# Altium integrated library Lattice FPGA XP.IntLib: 280 symbols (part 11 of 55)
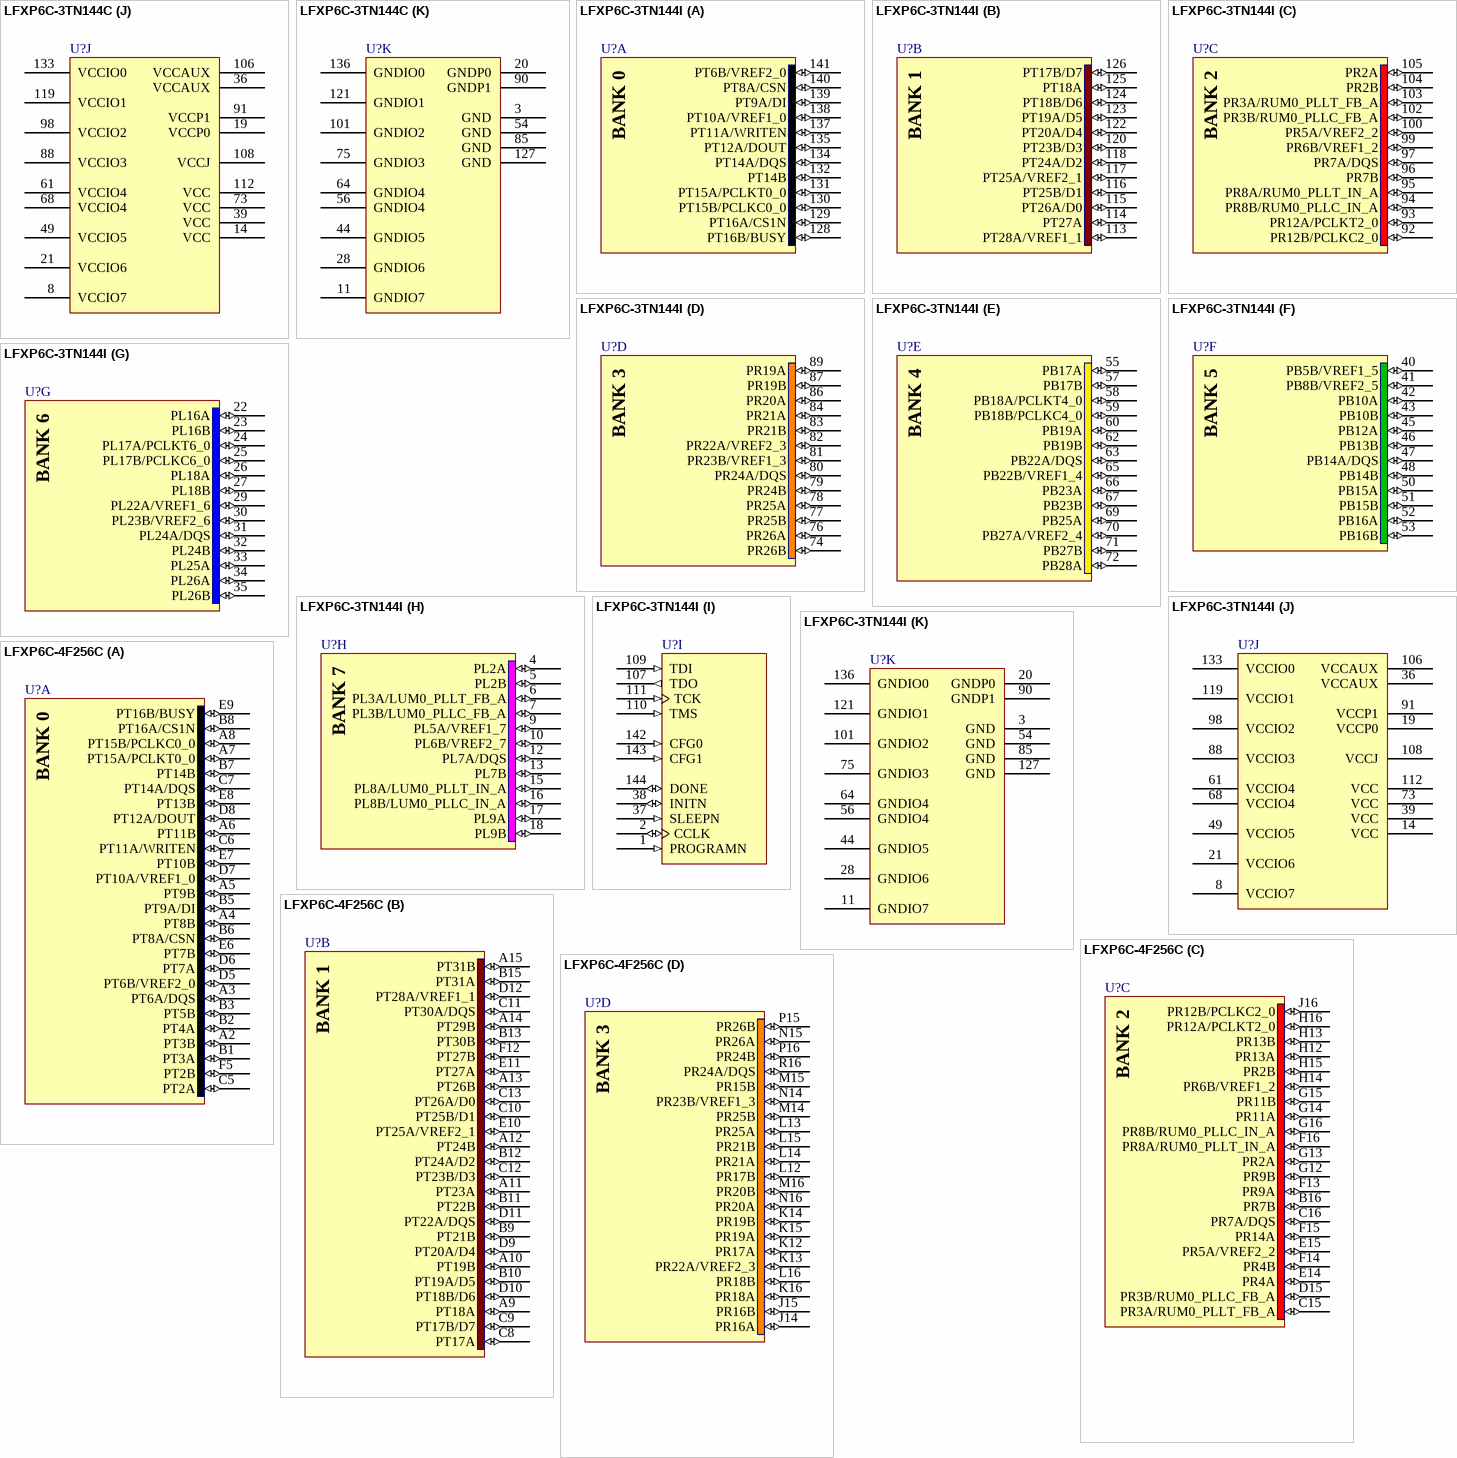
[diagram p257: symbols LFXP6C-3TN144C to LFXP6C-4F256C]

## LFXP6C-3TN144C
designator U?
XP 1.8/2.5/3.3V FPGA, 100 I/Os, 6K LUTs, 144-Pin TQFP, Speed Grade 3, Commerical Grade, Pb-Free; DatasheetVersion: ver05.1, Nov-2007; PackageVersion: ver02.8, Jul-2011; PackageReference: TQFP144; PackageDescription: 144-Pin Thin Quad Flat Pack (TQFP144); Code_JEDEC: MS-026-BFB; ComponentLink1Description: Manufacturer URL; ComponentLink1URL: http://www.latticesemi.com/; ComponentLink2Description: Datasheet; ComponentLink2URL: http://www.latticesemi.com/lit/docs/datasheets/fpga/DS1001.pdf; ComponentLink3Description: Package Specification; ComponentLink3URL: http://www.latticesemi.com/lit/docs/package/pkg.pdf
footprint TQFP144_N (Thin QFP, 144-Leads, Body 20x20mm, Pitch 0.5mm, IPC Medium Density)
footprint TQFP144_L (Thin QFP, 144-Leads, Body 20x20mm, Pitch 0.5mm, IPC High Density)
footprint TQFP144_M (Thin QFP, 144-Leads, Body 20x20mm, Pitch 0.5mm, IPC Low Density)
part A pins: 128 PT16B/BUSY (io), 129 PT16A/CS1N (io), 130 PT15B/PCLKC0_0 (io), 131 PT15A/PCLKT0_0 (io), 132 PT14B (io), 134 PT14A/DQS (io), 135 PT12A/DOUT (io), 137 PT11A/WRITEN (io), 138 PT10A/VREF1_0 (io), 139 PT9A/DI (io), 140 PT8A/CSN (io), 141 PT6B/VREF2_0 (io)
part B pins: 113 PT28A/VREF1_1 (io), 114 PT27A (io), 115 PT26A/D0 (io), 116 PT25B/D1 (io), 117 PT25A/VREF2_1 (io), 118 PT24A/D2 (io), 120 PT23B/D3 (io), 122 PT20A/D4 (io), 123 PT19A/D5 (io), 124 PT18B/D6 (io), 125 PT18A (io), 126 PT17B/D7 (io)
part C pins: 92 PR12B/PCLKC2_0 (io), 93 PR12A/PCLKT2_0 (io), 94 PR8B/RUM0_PLLC_IN_A (io), 95 PR8A/RUM0_PLLT_IN_A (io), 96 PR7B (io), 97 PR7A/DQS (io), 99 PR6B/VREF1_2 (io), 100 PR5A/VREF2_2 (io), 102 PR3B/RUM0_PLLC_FB_A (io), 103 PR3A/RUM0_PLLT_FB_A (io), 104 PR2B (io), 105 PR2A (io)
part D pins: 74 PR26B (io), 76 PR26A (io), 77 PR25B (io), 78 PR25A (io), 79 PR24B (io), 80 PR24A/DQS (io), 81 PR23B/VREF1_3 (io), 82 PR22A/VREF2_3 (io), 83 PR21B (io), 84 PR21A (io), 86 PR20A (io), 87 PR19B (io), 89 PR19A (io)
part E pins: 55 PB17A (io), 57 PB17B (io), 58 PB18A/PCLKT4_0 (io), 59 PB18B/PCLKC4_0 (io), 60 PB19A (io), 62 PB19B (io), 63 PB22A/DQS (io), 65 PB22B/VREF1_4 (io), 66 PB23A (io), 67 PB23B (io), 69 PB25A (io), 70 PB27A/VREF2_4 (io), 71 PB27B (io), 72 PB28A (io)
part F pins: 40 PB5B/VREF1_5 (io), 41 PB8B/VREF2_5 (io), 42 PB10A (io), 43 PB10B (io), 45 PB12A (io), 46 PB13B (io), 47 PB14A/DQS (io), 48 PB14B (io), 50 PB15A (io), 51 PB15B (io), 52 PB16A (io), 53 PB16B (io)
part G pins: 22 PL16A (io), 23 PL16B (io), 24 PL17A/PCLKT6_0 (io), 25 PL17B/PCLKC6_0 (io), 26 PL18A (io), 27 PL18B (io), 29 PL22A/VREF1_6 (io), 30 PL23B/VREF2_6 (io), 31 PL24A/DQS (io), 32 PL24B (io), 33 PL25A (io), 34 PL26A (io), 35 PL26B (io)
part H pins: 4 PL2A (io), 5 PL2B (io), 6 PL3A/LUM0_PLLT_FB_A (io), 7 PL3B/LUM0_PLLC_FB_A (io), 9 PL5A/VREF1_7 (io), 10 PL6B/VREF2_7 (io), 12 PL7A/DQS (io), 13 PL7B (io), 15 PL8A/LUM0_PLLT_IN_A (io), 16 PL8B/LUM0_PLLC_IN_A (io), 17 PL9A (io), 18 PL9B (io)
part I pins: 1 PROGRAMN (in), 2 CCLK (io), 37 SLEEPN (in), 38 INITN (io), 107 TDO (out), 109 TDI (in), 110 TMS (in), 111 TCK (in), 142 CFG0 (in), 143 CFG1 (in), 144 DONE (io)
part J pins: 8 VCCIO7 (power), 14 VCC (power), 19 VCCP0 (power), 21 VCCIO6 (power), 36 VCCAUX (power), 39 VCC (power), 49 VCCIO5 (power), 61 VCCIO4 (power), 68 VCCIO4 (power), 73 VCC (power), 88 VCCIO3 (power), 91 VCCP1 (power), 98 VCCIO2 (power), 106 VCCAUX (power), 108 VCCJ (power), 112 VCC (power), 119 VCCIO1 (power), 133 VCCIO0 (power)
part K pins: 3 GND (power), 11 GNDIO7 (power), 20 GNDP0 (power), 28 GNDIO6 (power), 44 GNDIO5 (power), 54 GND (power), 56 GNDIO4 (power), 64 GNDIO4 (power), 75 GNDIO3 (power), 85 GND (power), 90 GNDP1 (power), 101 GNDIO2 (power), 121 GNDIO1 (power), 127 GND (power), 136 GNDIO0 (power)
part A text: BANK 0
part B text: BANK 1
part C text: BANK 2
part D text: BANK 3
part E text: BANK 4
part F text: BANK 5
part G text: BANK 6
part H text: BANK 7

## LFXP6C-3TN144I
designator U?
XP 1.8/2.5/3.3V FPGA, 100 I/Os, 6K LUTs, 144-Pin TQFP, Speed Grade 3, Industrial Grade, Pb-Free; DatasheetVersion: ver05.1, Nov-2007; PackageVersion: ver02.8, Jul-2011; PackageReference: TQFP144; PackageDescription: 144-Pin Thin Quad Flat Pack (TQFP144); Code_JEDEC: MS-026-BFB; ComponentLink1Description: Manufacturer URL; ComponentLink1URL: http://www.latticesemi.com/; ComponentLink2Description: Datasheet; ComponentLink2URL: http://www.latticesemi.com/lit/docs/datasheets/fpga/DS1001.pdf; ComponentLink3Description: Package Specification; ComponentLink3URL: http://www.latticesemi.com/lit/docs/package/pkg.pdf
footprint TQFP144_N (Thin QFP, 144-Leads, Body 20x20mm, Pitch 0.5mm, IPC Medium Density)
footprint TQFP144_L (Thin QFP, 144-Leads, Body 20x20mm, Pitch 0.5mm, IPC High Density)
footprint TQFP144_M (Thin QFP, 144-Leads, Body 20x20mm, Pitch 0.5mm, IPC Low Density)
part A pins: 128 PT16B/BUSY (io), 129 PT16A/CS1N (io), 130 PT15B/PCLKC0_0 (io), 131 PT15A/PCLKT0_0 (io), 132 PT14B (io), 134 PT14A/DQS (io), 135 PT12A/DOUT (io), 137 PT11A/WRITEN (io), 138 PT10A/VREF1_0 (io), 139 PT9A/DI (io), 140 PT8A/CSN (io), 141 PT6B/VREF2_0 (io)
part B pins: 113 PT28A/VREF1_1 (io), 114 PT27A (io), 115 PT26A/D0 (io), 116 PT25B/D1 (io), 117 PT25A/VREF2_1 (io), 118 PT24A/D2 (io), 120 PT23B/D3 (io), 122 PT20A/D4 (io), 123 PT19A/D5 (io), 124 PT18B/D6 (io), 125 PT18A (io), 126 PT17B/D7 (io)
part C pins: 92 PR12B/PCLKC2_0 (io), 93 PR12A/PCLKT2_0 (io), 94 PR8B/RUM0_PLLC_IN_A (io), 95 PR8A/RUM0_PLLT_IN_A (io), 96 PR7B (io), 97 PR7A/DQS (io), 99 PR6B/VREF1_2 (io), 100 PR5A/VREF2_2 (io), 102 PR3B/RUM0_PLLC_FB_A (io), 103 PR3A/RUM0_PLLT_FB_A (io), 104 PR2B (io), 105 PR2A (io)
part D pins: 74 PR26B (io), 76 PR26A (io), 77 PR25B (io), 78 PR25A (io), 79 PR24B (io), 80 PR24A/DQS (io), 81 PR23B/VREF1_3 (io), 82 PR22A/VREF2_3 (io), 83 PR21B (io), 84 PR21A (io), 86 PR20A (io), 87 PR19B (io), 89 PR19A (io)
part E pins: 55 PB17A (io), 57 PB17B (io), 58 PB18A/PCLKT4_0 (io), 59 PB18B/PCLKC4_0 (io), 60 PB19A (io), 62 PB19B (io), 63 PB22A/DQS (io), 65 PB22B/VREF1_4 (io), 66 PB23A (io), 67 PB23B (io), 69 PB25A (io), 70 PB27A/VREF2_4 (io), 71 PB27B (io), 72 PB28A (io)
part F pins: 40 PB5B/VREF1_5 (io), 41 PB8B/VREF2_5 (io), 42 PB10A (io), 43 PB10B (io), 45 PB12A (io), 46 PB13B (io), 47 PB14A/DQS (io), 48 PB14B (io), 50 PB15A (io), 51 PB15B (io), 52 PB16A (io), 53 PB16B (io)
part G pins: 22 PL16A (io), 23 PL16B (io), 24 PL17A/PCLKT6_0 (io), 25 PL17B/PCLKC6_0 (io), 26 PL18A (io), 27 PL18B (io), 29 PL22A/VREF1_6 (io), 30 PL23B/VREF2_6 (io), 31 PL24A/DQS (io), 32 PL24B (io), 33 PL25A (io), 34 PL26A (io), 35 PL26B (io)
part H pins: 4 PL2A (io), 5 PL2B (io), 6 PL3A/LUM0_PLLT_FB_A (io), 7 PL3B/LUM0_PLLC_FB_A (io), 9 PL5A/VREF1_7 (io), 10 PL6B/VREF2_7 (io), 12 PL7A/DQS (io), 13 PL7B (io), 15 PL8A/LUM0_PLLT_IN_A (io), 16 PL8B/LUM0_PLLC_IN_A (io), 17 PL9A (io), 18 PL9B (io)
part I pins: 1 PROGRAMN (in), 2 CCLK (io), 37 SLEEPN (in), 38 INITN (io), 107 TDO (out), 109 TDI (in), 110 TMS (in), 111 TCK (in), 142 CFG0 (in), 143 CFG1 (in), 144 DONE (io)
part J pins: 8 VCCIO7 (power), 14 VCC (power), 19 VCCP0 (power), 21 VCCIO6 (power), 36 VCCAUX (power), 39 VCC (power), 49 VCCIO5 (power), 61 VCCIO4 (power), 68 VCCIO4 (power), 73 VCC (power), 88 VCCIO3 (power), 91 VCCP1 (power), 98 VCCIO2 (power), 106 VCCAUX (power), 108 VCCJ (power), 112 VCC (power), 119 VCCIO1 (power), 133 VCCIO0 (power)
part K pins: 3 GND (power), 11 GNDIO7 (power), 20 GNDP0 (power), 28 GNDIO6 (power), 44 GNDIO5 (power), 54 GND (power), 56 GNDIO4 (power), 64 GNDIO4 (power), 75 GNDIO3 (power), 85 GND (power), 90 GNDP1 (power), 101 GNDIO2 (power), 121 GNDIO1 (power), 127 GND (power), 136 GNDIO0 (power)
part A text: BANK 0
part B text: BANK 1
part C text: BANK 2
part D text: BANK 3
part E text: BANK 4
part F text: BANK 5
part G text: BANK 6
part H text: BANK 7

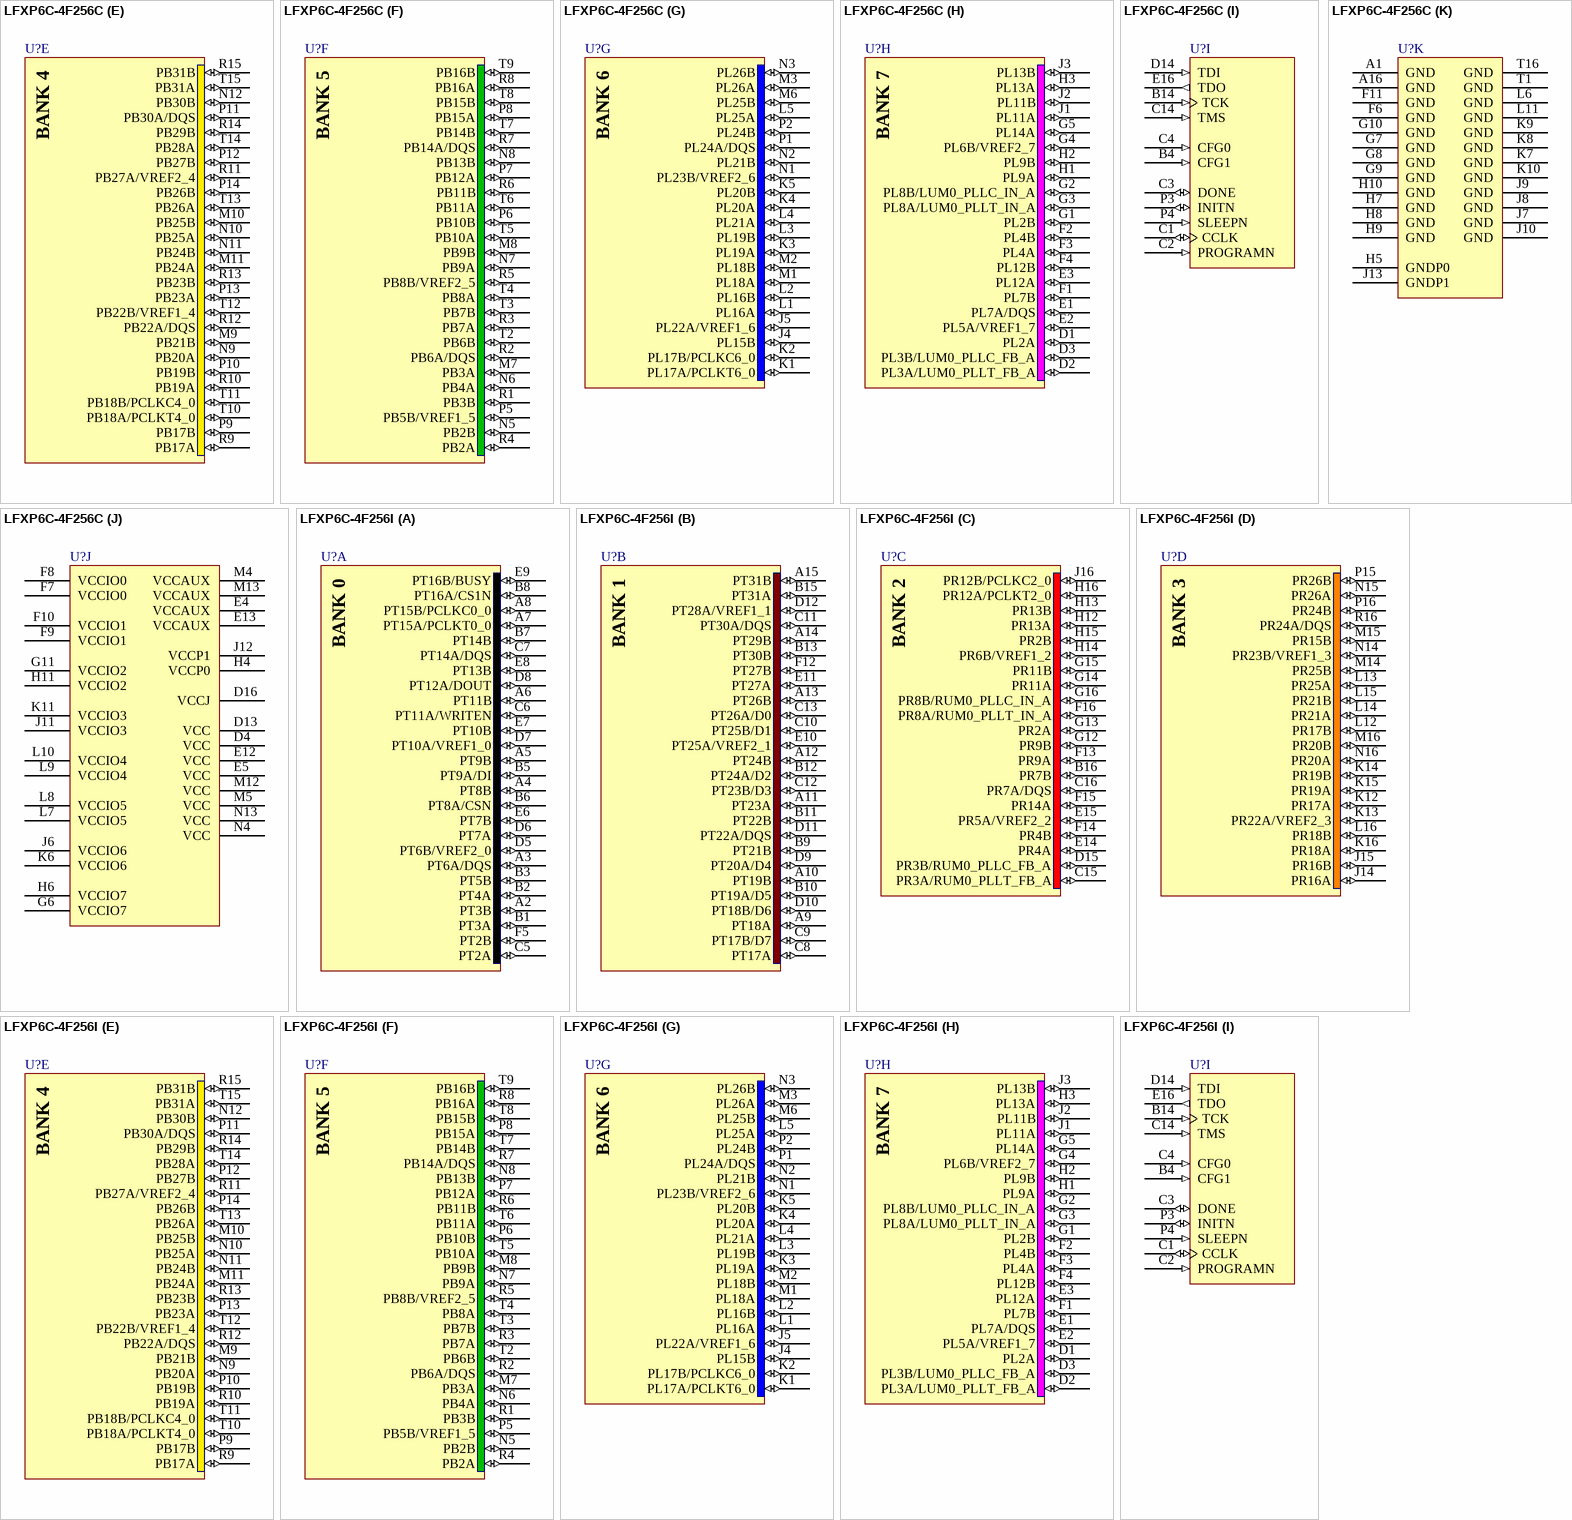
[diagram p42: symbols LFXP6C-4F256C to LFXP6C-4F256I]

## LFXP6C-4F256C
designator U?
XP 1.8/2.5/3.3V FPGA, 188 I/Os, 6K LUTs, 256-Pin fpBGA, Speed Grade 4, Commerical Grade; DatasheetVersion: ver05.1, Nov-2007; PackageVersion: ver01.8, Dec-2008; PackageReference: fpBGA256; PackageDescription: 256-Ball Fine Pitch Ball Grid Array (fpBGA256); Code_IPC: BGA100P16X16-256; ComponentLink1Description: Manufacturer URL; ComponentLink1URL: http://www.latticesemi.com/; ComponentLink2Description: Datasheet; ComponentLink2URL: http://www.latticesemi.com/lit/docs/datasheets/fpga/DS1001.pdf; ComponentLink3Description: Package Specification; ComponentLink3URL: http://www.latticesemi.com/lit/docs/package/pkg.pdf
footprint fpBGA256 (BGA, 256-Leads, Body 17x17mm, Pitch 1mm)
part A pins: A2 PT3B (io), A3 PT6A/DQS (io), A4 PT8B (io), A5 PT9B (io), A6 PT11B (io), A7 PT15A/PCLKT0_0 (io), A8 PT15B/PCLKC0_0 (io), B1 PT3A (io), B2 PT4A (io), B3 PT5B (io), B5 PT9A/DI (io), B6 PT8A/CSN (io), B7 PT14B (io), B8 PT16A/CS1N (io), C5 PT2A (io), C6 PT11A/WRITEN (io), C7 PT14A/DQS (io), D5 PT6B/VREF2_0 (io), D6 PT7A (io), D7 PT10A/VREF1_0 (io), D8 PT12A/DOUT (io), E6 PT7B (io), E7 PT10B (io), E8 PT13B (io), E9 PT16B/BUSY (io), F5 PT2B (io)
part B pins: A9 PT18A (io), A10 PT19B (io), A11 PT23A (io), A12 PT24B (io), A13 PT26B (io), A14 PT29B (io), A15 PT31B (io), B9 PT21B (io), B10 PT19A/D5 (io), B11 PT22B (io), B12 PT24A/D2 (io), B13 PT30B (io), B15 PT31A (io), C8 PT17A (io), C9 PT17B/D7 (io), C10 PT25B/D1 (io), C11 PT30A/DQS (io), C12 PT23B/D3 (io), C13 PT26A/D0 (io), D9 PT20A/D4 (io), D10 PT18B/D6 (io), D11 PT22A/DQS (io), D12 PT28A/VREF1_1 (io), E10 PT25A/VREF2_1 (io), E11 PT27A (io), F12 PT27B (io)
part C pins: B16 PR7B (io), C15 PR3A/RUM0_PLLT_FB_A (io), C16 PR7A/DQS (io), D15 PR3B/RUM0_PLLC_FB_A (io), E14 PR4A (io), E15 PR5A/VREF2_2 (io), F13 PR9A (io), F14 PR4B (io), F15 PR14A (io), F16 PR8A/RUM0_PLLT_IN_A (io), G12 PR9B (io), G13 PR2A (io), G14 PR11A (io), G15 PR11B (io), G16 PR8B/RUM0_PLLC_IN_A (io), H12 PR13A (io), H13 PR13B (io), H14 PR6B/VREF1_2 (io), H15 PR2B (io), H16 PR12A/PCLKT2_0 (io), J16 PR12B/PCLKC2_0 (io)
part D pins: J14 PR16A (io), J15 PR16B (io), K12 PR17A (io), K13 PR22A/VREF2_3 (io), K14 PR19B (io), K15 PR19A (io), K16 PR18A (io), L12 PR17B (io), L13 PR25A (io), L14 PR21A (io), L15 PR21B (io), L16 PR18B (io), M14 PR25B (io), M15 PR15B (io), M16 PR20B (io), N14 PR23B/VREF1_3 (io), N15 PR26A (io), N16 PR20A (io), P15 PR26B (io), P16 PR24B (io), R16 PR24A/DQS (io)
part E pins: M9 PB21B (io), M10 PB25B (io), M11 PB24A (io), N9 PB20A (io), N10 PB25A (io), N11 PB24B (io), N12 PB30B (io), P9 PB17B (io), P10 PB19B (io), P11 PB30A/DQS (io), P12 PB27B (io), P13 PB23A (io), P14 PB26B (io), R9 PB17A (io), R10 PB19A (io), R11 PB27A/VREF2_4 (io), R12 PB22A/DQS (io), R13 PB23B (io), R14 PB29B (io), R15 PB31B (io), T10 PB18A/PCLKT4_0 (io), T11 PB18B/PCLKC4_0 (io), T12 PB22B/VREF1_4 (io), T13 PB26A (io), T14 PB28A (io), T15 PB31A (io)
part F pins: M7 PB3A (io), M8 PB9B (io), N5 PB2B (io), N6 PB4A (io), N7 PB9A (io), N8 PB13B (io), P5 PB5B/VREF1_5 (io), P6 PB10B (io), P7 PB12A (io), P8 PB15A (io), R1 PB3B (io), R2 PB6A/DQS (io), R3 PB7A (io), R4 PB2A (io), R5 PB8B/VREF2_5 (io), R6 PB11B (io), R7 PB14A/DQS (io), R8 PB16A (io), T2 PB6B (io), T3 PB7B (io), T4 PB8A (io), T5 PB10A (io), T6 PB11A (io), T7 PB14B (io), T8 PB15B (io), T9 PB16B (io)
part G pins: J4 PL15B (io), J5 PL22A/VREF1_6 (io), K1 PL17A/PCLKT6_0 (io), K2 PL17B/PCLKC6_0 (io), K3 PL19A (io), K4 PL20A (io), K5 PL20B (io), L1 PL16A (io), L2 PL16B (io), L3 PL19B (io), L4 PL21A (io), L5 PL25A (io), M1 PL18A (io), M2 PL18B (io), M3 PL26A (io), M6 PL25B (io), N1 PL23B/VREF2_6 (io), N2 PL21B (io), N3 PL26B (io), P1 PL24A/DQS (io), P2 PL24B (io)
part H pins: D1 PL2A (io), D2 PL3A/LUM0_PLLT_FB_A (io), D3 PL3B/LUM0_PLLC_FB_A (io), E1 PL7A/DQS (io), E2 PL5A/VREF1_7 (io), E3 PL12A (io), F1 PL7B (io), F2 PL4B (io), F3 PL4A (io), F4 PL12B (io), G1 PL2B (io), G2 PL8B/LUM0_PLLC_IN_A (io), G3 PL8A/LUM0_PLLT_IN_A (io), G4 PL6B/VREF2_7 (io), G5 PL14A (io), H1 PL9A (io), H2 PL9B (io), H3 PL13A (io), J1 PL11A (io), J2 PL11B (io), J3 PL13B (io)
part I pins: B4 CFG1 (in), B14 TCK (in), C1 CCLK (io), C2 PROGRAMN (in), C3 DONE (io), C4 CFG0 (in), C14 TMS (in), D14 TDI (in), E16 TDO (out), P3 INITN (io), P4 SLEEPN (in)
part J pins: D4 VCC (power), D13 VCC (power), D16 VCCJ (power), E4 VCCAUX (power), E5 VCC (power), E12 VCC (power), E13 VCCAUX (power), F7 VCCIO0 (power), F8 VCCIO0 (power), F9 VCCIO1 (power), F10 VCCIO1 (power), G6 VCCIO7 (power), G11 VCCIO2 (power), H4 VCCP0 (power), H6 VCCIO7 (power), H11 VCCIO2 (power), J6 VCCIO6 (power), J11 VCCIO3 (power), J12 VCCP1 (power), K6 VCCIO6 (power), K11 VCCIO3 (power), L7 VCCIO5 (power), L8 VCCIO5 (power), L9 VCCIO4 (power), L10 VCCIO4 (power), M4 VCCAUX (power), M5 VCC (power), M12 VCC (power), M13 VCCAUX (power), N4 VCC (power), N13 VCC (power)
part K pins: A1 GND (power), A16 GND (power), F6 GND (power), F11 GND (power), G7 GND (power), G8 GND (power), G9 GND (power), G10 GND (power), H5 GNDP0 (power), H7 GND (power), H8 GND (power), H9 GND (power), H10 GND (power), J7 GND (power), J8 GND (power), J9 GND (power), J10 GND (power), J13 GNDP1 (power), K7 GND (power), K8 GND (power), K9 GND (power), K10 GND (power), L6 GND (power), L11 GND (power), T1 GND (power), T16 GND (power)
part A text: BANK 0
part B text: BANK 1
part C text: BANK 2
part D text: BANK 3
part E text: BANK 4
part F text: BANK 5
part G text: BANK 6
part H text: BANK 7

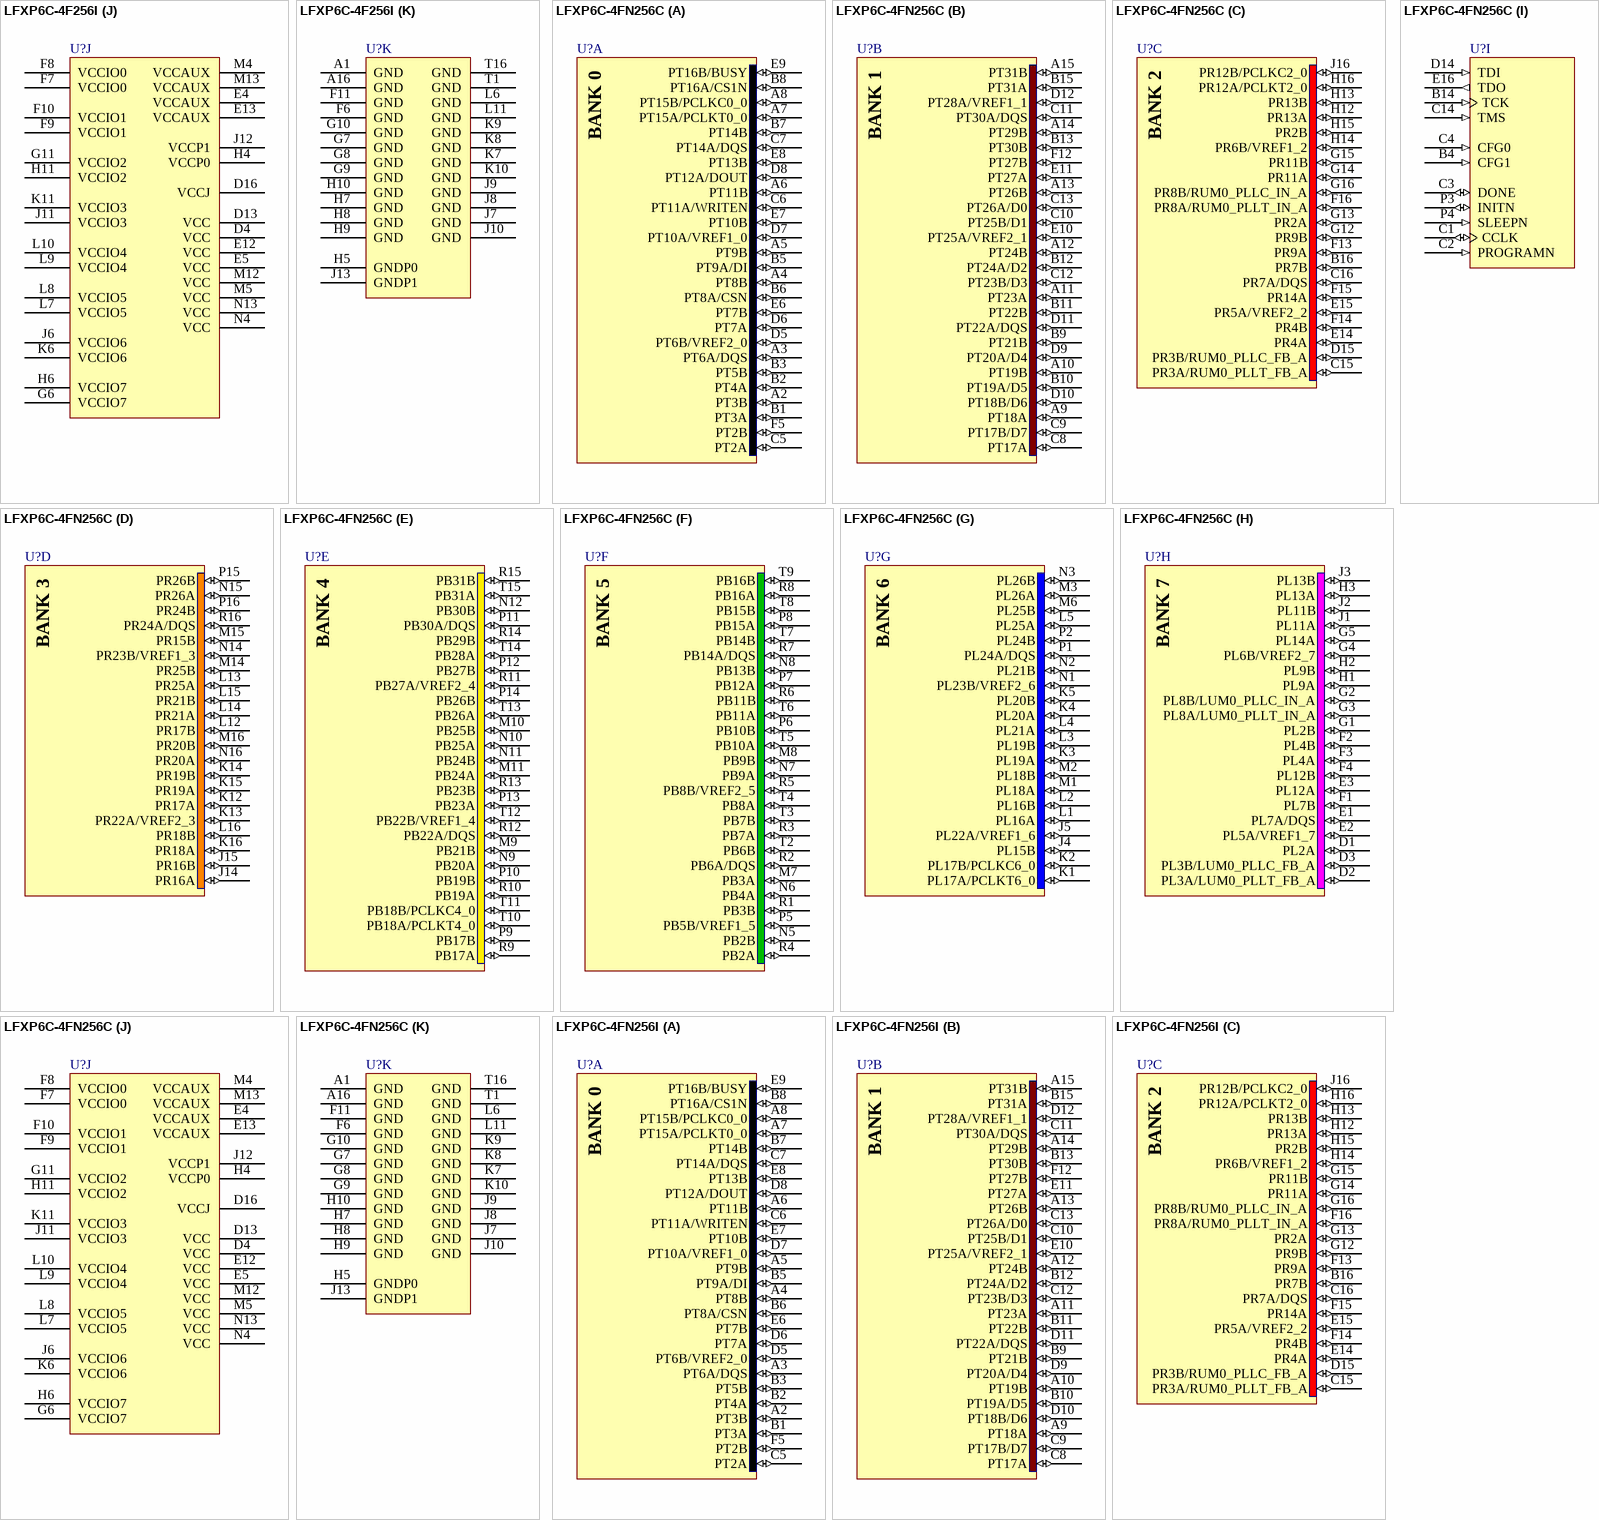
[diagram p43: symbols LFXP6C-4F256I to LFXP6C-4FN256I]

## LFXP6C-4F256I
designator U?
XP 1.8/2.5/3.3V FPGA, 188 I/Os, 6K LUTs, 256-Pin fpBGA, Speed Grade 4, Industrial Grade; DatasheetVersion: ver05.1, Nov-2007; PackageVersion: ver01.8, Dec-2008; PackageReference: fpBGA256; PackageDescription: 256-Ball Fine Pitch Ball Grid Array (fpBGA256); Code_IPC: BGA100P16X16-256; ComponentLink1Description: Manufacturer URL; ComponentLink1URL: http://www.latticesemi.com/; ComponentLink2Description: Datasheet; ComponentLink2URL: http://www.latticesemi.com/lit/docs/datasheets/fpga/DS1001.pdf; ComponentLink3Description: Package Specification; ComponentLink3URL: http://www.latticesemi.com/lit/docs/package/pkg.pdf
footprint fpBGA256 (BGA, 256-Leads, Body 17x17mm, Pitch 1mm)
part A pins: A2 PT3B (io), A3 PT6A/DQS (io), A4 PT8B (io), A5 PT9B (io), A6 PT11B (io), A7 PT15A/PCLKT0_0 (io), A8 PT15B/PCLKC0_0 (io), B1 PT3A (io), B2 PT4A (io), B3 PT5B (io), B5 PT9A/DI (io), B6 PT8A/CSN (io), B7 PT14B (io), B8 PT16A/CS1N (io), C5 PT2A (io), C6 PT11A/WRITEN (io), C7 PT14A/DQS (io), D5 PT6B/VREF2_0 (io), D6 PT7A (io), D7 PT10A/VREF1_0 (io), D8 PT12A/DOUT (io), E6 PT7B (io), E7 PT10B (io), E8 PT13B (io), E9 PT16B/BUSY (io), F5 PT2B (io)
part B pins: A9 PT18A (io), A10 PT19B (io), A11 PT23A (io), A12 PT24B (io), A13 PT26B (io), A14 PT29B (io), A15 PT31B (io), B9 PT21B (io), B10 PT19A/D5 (io), B11 PT22B (io), B12 PT24A/D2 (io), B13 PT30B (io), B15 PT31A (io), C8 PT17A (io), C9 PT17B/D7 (io), C10 PT25B/D1 (io), C11 PT30A/DQS (io), C12 PT23B/D3 (io), C13 PT26A/D0 (io), D9 PT20A/D4 (io), D10 PT18B/D6 (io), D11 PT22A/DQS (io), D12 PT28A/VREF1_1 (io), E10 PT25A/VREF2_1 (io), E11 PT27A (io), F12 PT27B (io)
part C pins: B16 PR7B (io), C15 PR3A/RUM0_PLLT_FB_A (io), C16 PR7A/DQS (io), D15 PR3B/RUM0_PLLC_FB_A (io), E14 PR4A (io), E15 PR5A/VREF2_2 (io), F13 PR9A (io), F14 PR4B (io), F15 PR14A (io), F16 PR8A/RUM0_PLLT_IN_A (io), G12 PR9B (io), G13 PR2A (io), G14 PR11A (io), G15 PR11B (io), G16 PR8B/RUM0_PLLC_IN_A (io), H12 PR13A (io), H13 PR13B (io), H14 PR6B/VREF1_2 (io), H15 PR2B (io), H16 PR12A/PCLKT2_0 (io), J16 PR12B/PCLKC2_0 (io)
part D pins: J14 PR16A (io), J15 PR16B (io), K12 PR17A (io), K13 PR22A/VREF2_3 (io), K14 PR19B (io), K15 PR19A (io), K16 PR18A (io), L12 PR17B (io), L13 PR25A (io), L14 PR21A (io), L15 PR21B (io), L16 PR18B (io), M14 PR25B (io), M15 PR15B (io), M16 PR20B (io), N14 PR23B/VREF1_3 (io), N15 PR26A (io), N16 PR20A (io), P15 PR26B (io), P16 PR24B (io), R16 PR24A/DQS (io)
part E pins: M9 PB21B (io), M10 PB25B (io), M11 PB24A (io), N9 PB20A (io), N10 PB25A (io), N11 PB24B (io), N12 PB30B (io), P9 PB17B (io), P10 PB19B (io), P11 PB30A/DQS (io), P12 PB27B (io), P13 PB23A (io), P14 PB26B (io), R9 PB17A (io), R10 PB19A (io), R11 PB27A/VREF2_4 (io), R12 PB22A/DQS (io), R13 PB23B (io), R14 PB29B (io), R15 PB31B (io), T10 PB18A/PCLKT4_0 (io), T11 PB18B/PCLKC4_0 (io), T12 PB22B/VREF1_4 (io), T13 PB26A (io), T14 PB28A (io), T15 PB31A (io)
part F pins: M7 PB3A (io), M8 PB9B (io), N5 PB2B (io), N6 PB4A (io), N7 PB9A (io), N8 PB13B (io), P5 PB5B/VREF1_5 (io), P6 PB10B (io), P7 PB12A (io), P8 PB15A (io), R1 PB3B (io), R2 PB6A/DQS (io), R3 PB7A (io), R4 PB2A (io), R5 PB8B/VREF2_5 (io), R6 PB11B (io), R7 PB14A/DQS (io), R8 PB16A (io), T2 PB6B (io), T3 PB7B (io), T4 PB8A (io), T5 PB10A (io), T6 PB11A (io), T7 PB14B (io), T8 PB15B (io), T9 PB16B (io)
part G pins: J4 PL15B (io), J5 PL22A/VREF1_6 (io), K1 PL17A/PCLKT6_0 (io), K2 PL17B/PCLKC6_0 (io), K3 PL19A (io), K4 PL20A (io), K5 PL20B (io), L1 PL16A (io), L2 PL16B (io), L3 PL19B (io), L4 PL21A (io), L5 PL25A (io), M1 PL18A (io), M2 PL18B (io), M3 PL26A (io), M6 PL25B (io), N1 PL23B/VREF2_6 (io), N2 PL21B (io), N3 PL26B (io), P1 PL24A/DQS (io), P2 PL24B (io)
part H pins: D1 PL2A (io), D2 PL3A/LUM0_PLLT_FB_A (io), D3 PL3B/LUM0_PLLC_FB_A (io), E1 PL7A/DQS (io), E2 PL5A/VREF1_7 (io), E3 PL12A (io), F1 PL7B (io), F2 PL4B (io), F3 PL4A (io), F4 PL12B (io), G1 PL2B (io), G2 PL8B/LUM0_PLLC_IN_A (io), G3 PL8A/LUM0_PLLT_IN_A (io), G4 PL6B/VREF2_7 (io), G5 PL14A (io), H1 PL9A (io), H2 PL9B (io), H3 PL13A (io), J1 PL11A (io), J2 PL11B (io), J3 PL13B (io)
part I pins: B4 CFG1 (in), B14 TCK (in), C1 CCLK (io), C2 PROGRAMN (in), C3 DONE (io), C4 CFG0 (in), C14 TMS (in), D14 TDI (in), E16 TDO (out), P3 INITN (io), P4 SLEEPN (in)
part J pins: D4 VCC (power), D13 VCC (power), D16 VCCJ (power), E4 VCCAUX (power), E5 VCC (power), E12 VCC (power), E13 VCCAUX (power), F7 VCCIO0 (power), F8 VCCIO0 (power), F9 VCCIO1 (power), F10 VCCIO1 (power), G6 VCCIO7 (power), G11 VCCIO2 (power), H4 VCCP0 (power), H6 VCCIO7 (power), H11 VCCIO2 (power), J6 VCCIO6 (power), J11 VCCIO3 (power), J12 VCCP1 (power), K6 VCCIO6 (power), K11 VCCIO3 (power), L7 VCCIO5 (power), L8 VCCIO5 (power), L9 VCCIO4 (power), L10 VCCIO4 (power), M4 VCCAUX (power), M5 VCC (power), M12 VCC (power), M13 VCCAUX (power), N4 VCC (power), N13 VCC (power)
part K pins: A1 GND (power), A16 GND (power), F6 GND (power), F11 GND (power), G7 GND (power), G8 GND (power), G9 GND (power), G10 GND (power), H5 GNDP0 (power), H7 GND (power), H8 GND (power), H9 GND (power), H10 GND (power), J7 GND (power), J8 GND (power), J9 GND (power), J10 GND (power), J13 GNDP1 (power), K7 GND (power), K8 GND (power), K9 GND (power), K10 GND (power), L6 GND (power), L11 GND (power), T1 GND (power), T16 GND (power)
part A text: BANK 0
part B text: BANK 1
part C text: BANK 2
part D text: BANK 3
part E text: BANK 4
part F text: BANK 5
part G text: BANK 6
part H text: BANK 7

## LFXP6C-4FN256C
designator U?
XP 1.8/2.5/3.3V FPGA, 188 I/Os, 6K LUTs, 256-Pin fpBGA, Speed Grade 4, Commerical Grade, Pb-Free; DatasheetVersion: ver05.1, Nov-2007; PackageVersion: ver01.8, Dec-2008; PackageReference: fpBGA256; PackageDescription: 256-Ball Fine Pitch Ball Grid Array (fpBGA256); Code_IPC: BGA100P16X16-256; ComponentLink1Description: Manufacturer URL; ComponentLink1URL: http://www.latticesemi.com/; ComponentLink2Description: Datasheet; ComponentLink2URL: http://www.latticesemi.com/lit/docs/datasheets/fpga/DS1001.pdf; ComponentLink3Description: Package Specification; ComponentLink3URL: http://www.latticesemi.com/lit/docs/package/pkg.pdf
footprint fpBGA256 (BGA, 256-Leads, Body 17x17mm, Pitch 1mm)
part A pins: A2 PT3B (io), A3 PT6A/DQS (io), A4 PT8B (io), A5 PT9B (io), A6 PT11B (io), A7 PT15A/PCLKT0_0 (io), A8 PT15B/PCLKC0_0 (io), B1 PT3A (io), B2 PT4A (io), B3 PT5B (io), B5 PT9A/DI (io), B6 PT8A/CSN (io), B7 PT14B (io), B8 PT16A/CS1N (io), C5 PT2A (io), C6 PT11A/WRITEN (io), C7 PT14A/DQS (io), D5 PT6B/VREF2_0 (io), D6 PT7A (io), D7 PT10A/VREF1_0 (io), D8 PT12A/DOUT (io), E6 PT7B (io), E7 PT10B (io), E8 PT13B (io), E9 PT16B/BUSY (io), F5 PT2B (io)
part B pins: A9 PT18A (io), A10 PT19B (io), A11 PT23A (io), A12 PT24B (io), A13 PT26B (io), A14 PT29B (io), A15 PT31B (io), B9 PT21B (io), B10 PT19A/D5 (io), B11 PT22B (io), B12 PT24A/D2 (io), B13 PT30B (io), B15 PT31A (io), C8 PT17A (io), C9 PT17B/D7 (io), C10 PT25B/D1 (io), C11 PT30A/DQS (io), C12 PT23B/D3 (io), C13 PT26A/D0 (io), D9 PT20A/D4 (io), D10 PT18B/D6 (io), D11 PT22A/DQS (io), D12 PT28A/VREF1_1 (io), E10 PT25A/VREF2_1 (io), E11 PT27A (io), F12 PT27B (io)
part C pins: B16 PR7B (io), C15 PR3A/RUM0_PLLT_FB_A (io), C16 PR7A/DQS (io), D15 PR3B/RUM0_PLLC_FB_A (io), E14 PR4A (io), E15 PR5A/VREF2_2 (io), F13 PR9A (io), F14 PR4B (io), F15 PR14A (io), F16 PR8A/RUM0_PLLT_IN_A (io), G12 PR9B (io), G13 PR2A (io), G14 PR11A (io), G15 PR11B (io), G16 PR8B/RUM0_PLLC_IN_A (io), H12 PR13A (io), H13 PR13B (io), H14 PR6B/VREF1_2 (io), H15 PR2B (io), H16 PR12A/PCLKT2_0 (io), J16 PR12B/PCLKC2_0 (io)
part D pins: J14 PR16A (io), J15 PR16B (io), K12 PR17A (io), K13 PR22A/VREF2_3 (io), K14 PR19B (io), K15 PR19A (io), K16 PR18A (io), L12 PR17B (io), L13 PR25A (io), L14 PR21A (io), L15 PR21B (io), L16 PR18B (io), M14 PR25B (io), M15 PR15B (io), M16 PR20B (io), N14 PR23B/VREF1_3 (io), N15 PR26A (io), N16 PR20A (io), P15 PR26B (io), P16 PR24B (io), R16 PR24A/DQS (io)
part E pins: M9 PB21B (io), M10 PB25B (io), M11 PB24A (io), N9 PB20A (io), N10 PB25A (io), N11 PB24B (io), N12 PB30B (io), P9 PB17B (io), P10 PB19B (io), P11 PB30A/DQS (io), P12 PB27B (io), P13 PB23A (io), P14 PB26B (io), R9 PB17A (io), R10 PB19A (io), R11 PB27A/VREF2_4 (io), R12 PB22A/DQS (io), R13 PB23B (io), R14 PB29B (io), R15 PB31B (io), T10 PB18A/PCLKT4_0 (io), T11 PB18B/PCLKC4_0 (io), T12 PB22B/VREF1_4 (io), T13 PB26A (io), T14 PB28A (io), T15 PB31A (io)
part F pins: M7 PB3A (io), M8 PB9B (io), N5 PB2B (io), N6 PB4A (io), N7 PB9A (io), N8 PB13B (io), P5 PB5B/VREF1_5 (io), P6 PB10B (io), P7 PB12A (io), P8 PB15A (io), R1 PB3B (io), R2 PB6A/DQS (io), R3 PB7A (io), R4 PB2A (io), R5 PB8B/VREF2_5 (io), R6 PB11B (io), R7 PB14A/DQS (io), R8 PB16A (io), T2 PB6B (io), T3 PB7B (io), T4 PB8A (io), T5 PB10A (io), T6 PB11A (io), T7 PB14B (io), T8 PB15B (io), T9 PB16B (io)
part G pins: J4 PL15B (io), J5 PL22A/VREF1_6 (io), K1 PL17A/PCLKT6_0 (io), K2 PL17B/PCLKC6_0 (io), K3 PL19A (io), K4 PL20A (io), K5 PL20B (io), L1 PL16A (io), L2 PL16B (io), L3 PL19B (io), L4 PL21A (io), L5 PL25A (io), M1 PL18A (io), M2 PL18B (io), M3 PL26A (io), M6 PL25B (io), N1 PL23B/VREF2_6 (io), N2 PL21B (io), N3 PL26B (io), P1 PL24A/DQS (io), P2 PL24B (io)
part H pins: D1 PL2A (io), D2 PL3A/LUM0_PLLT_FB_A (io), D3 PL3B/LUM0_PLLC_FB_A (io), E1 PL7A/DQS (io), E2 PL5A/VREF1_7 (io), E3 PL12A (io), F1 PL7B (io), F2 PL4B (io), F3 PL4A (io), F4 PL12B (io), G1 PL2B (io), G2 PL8B/LUM0_PLLC_IN_A (io), G3 PL8A/LUM0_PLLT_IN_A (io), G4 PL6B/VREF2_7 (io), G5 PL14A (io), H1 PL9A (io), H2 PL9B (io), H3 PL13A (io), J1 PL11A (io), J2 PL11B (io), J3 PL13B (io)
part I pins: B4 CFG1 (in), B14 TCK (in), C1 CCLK (io), C2 PROGRAMN (in), C3 DONE (io), C4 CFG0 (in), C14 TMS (in), D14 TDI (in), E16 TDO (out), P3 INITN (io), P4 SLEEPN (in)
part J pins: D4 VCC (power), D13 VCC (power), D16 VCCJ (power), E4 VCCAUX (power), E5 VCC (power), E12 VCC (power), E13 VCCAUX (power), F7 VCCIO0 (power), F8 VCCIO0 (power), F9 VCCIO1 (power), F10 VCCIO1 (power), G6 VCCIO7 (power), G11 VCCIO2 (power), H4 VCCP0 (power), H6 VCCIO7 (power), H11 VCCIO2 (power), J6 VCCIO6 (power), J11 VCCIO3 (power), J12 VCCP1 (power), K6 VCCIO6 (power), K11 VCCIO3 (power), L7 VCCIO5 (power), L8 VCCIO5 (power), L9 VCCIO4 (power), L10 VCCIO4 (power), M4 VCCAUX (power), M5 VCC (power), M12 VCC (power), M13 VCCAUX (power), N4 VCC (power), N13 VCC (power)
part K pins: A1 GND (power), A16 GND (power), F6 GND (power), F11 GND (power), G7 GND (power), G8 GND (power), G9 GND (power), G10 GND (power), H5 GNDP0 (power), H7 GND (power), H8 GND (power), H9 GND (power), H10 GND (power), J7 GND (power), J8 GND (power), J9 GND (power), J10 GND (power), J13 GNDP1 (power), K7 GND (power), K8 GND (power), K9 GND (power), K10 GND (power), L6 GND (power), L11 GND (power), T1 GND (power), T16 GND (power)
part A text: BANK 0
part B text: BANK 1
part C text: BANK 2
part D text: BANK 3
part E text: BANK 4
part F text: BANK 5
part G text: BANK 6
part H text: BANK 7

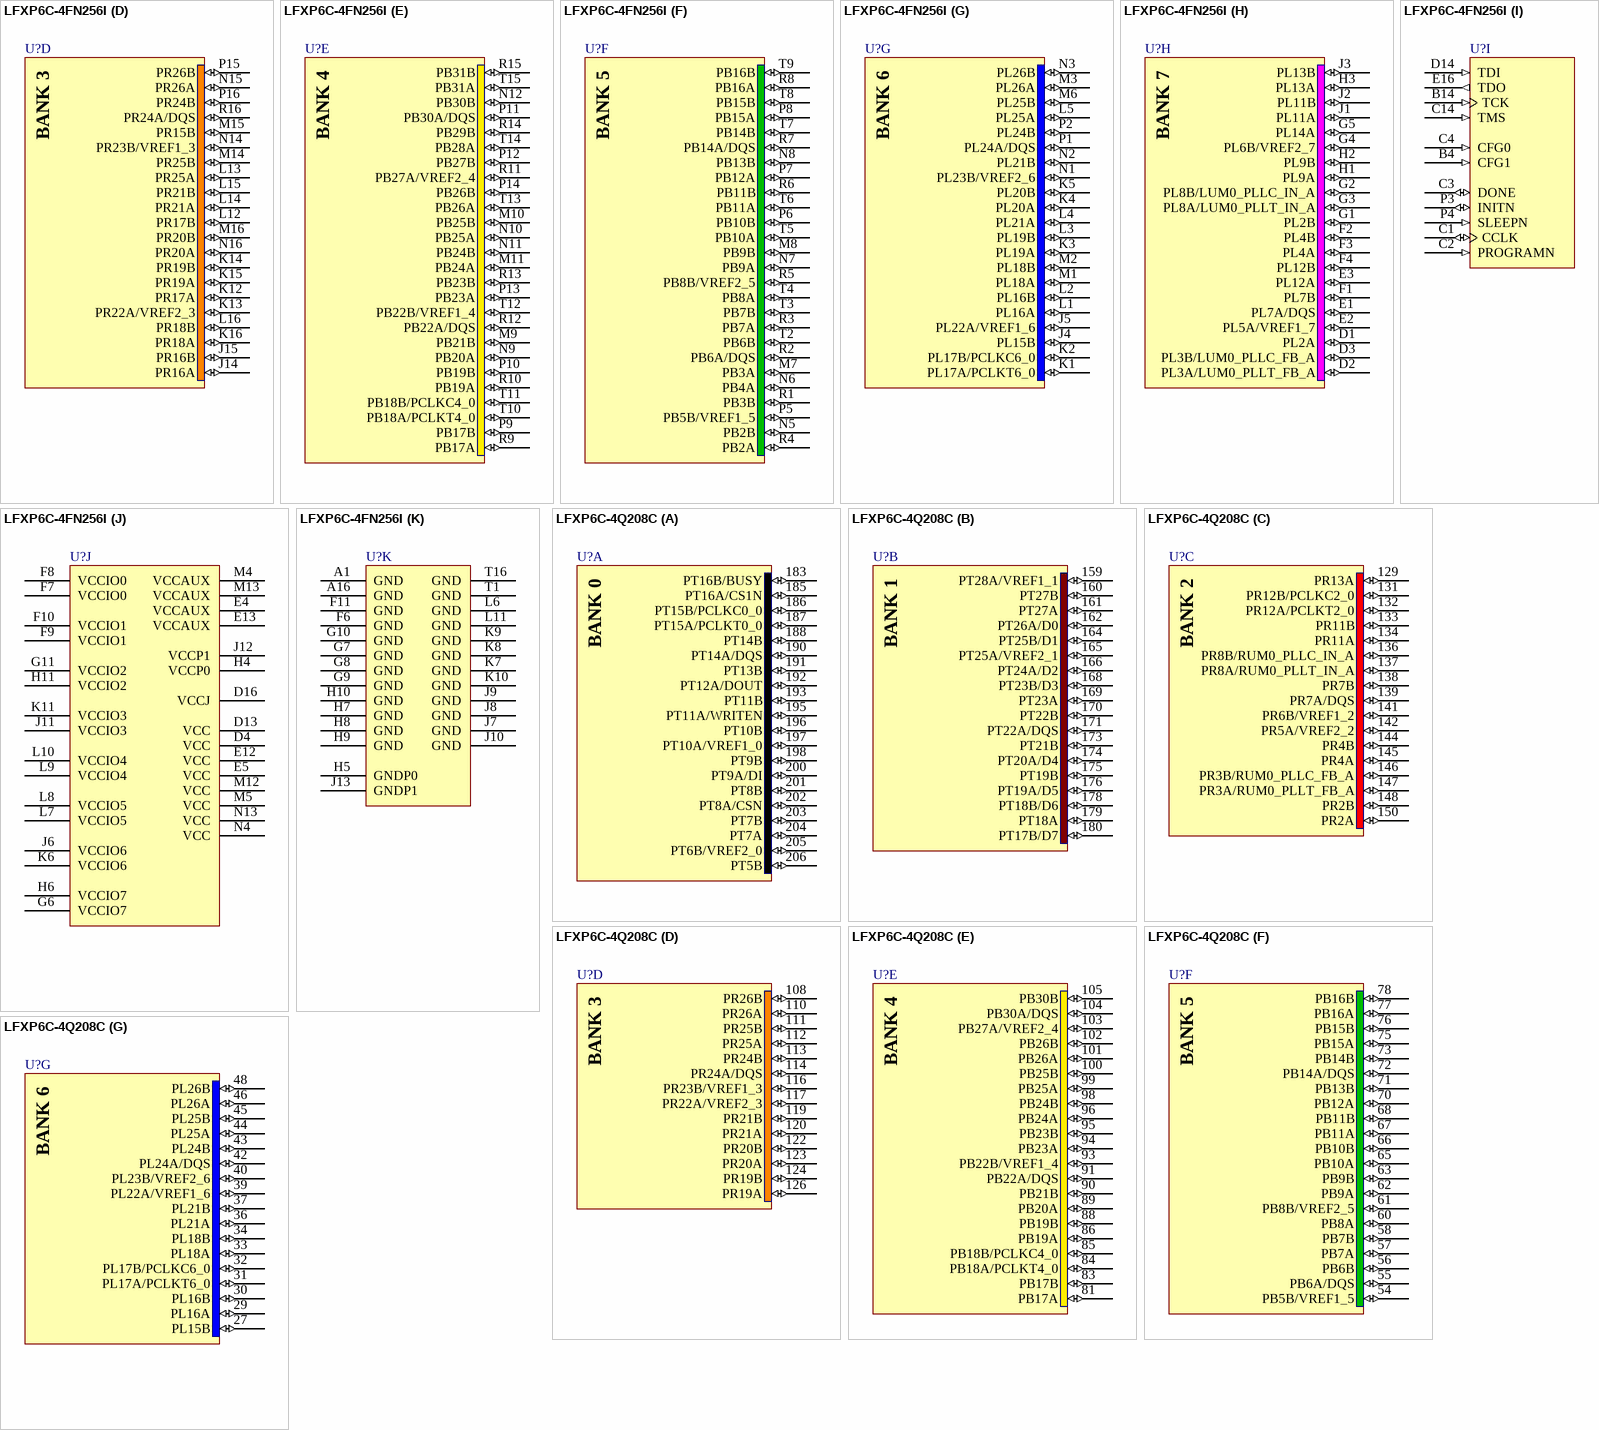
[diagram p44: symbols LFXP6C-4FN256I to LFXP6C-4Q208C]

## LFXP6C-4FN256I
designator U?
XP 1.8/2.5/3.3V FPGA, 188 I/Os, 6K LUTs, 256-Pin fpBGA, Speed Grade 4, Industrial Grade, Pb-Free; DatasheetVersion: ver05.1, Nov-2007; PackageVersion: ver01.8, Dec-2008; PackageReference: fpBGA256; PackageDescription: 256-Ball Fine Pitch Ball Grid Array (fpBGA256); Code_IPC: BGA100P16X16-256; ComponentLink1Description: Manufacturer URL; ComponentLink1URL: http://www.latticesemi.com/; ComponentLink2Description: Datasheet; ComponentLink2URL: http://www.latticesemi.com/lit/docs/datasheets/fpga/DS1001.pdf; ComponentLink3Description: Package Specification; ComponentLink3URL: http://www.latticesemi.com/lit/docs/package/pkg.pdf
footprint fpBGA256 (BGA, 256-Leads, Body 17x17mm, Pitch 1mm)
part A pins: A2 PT3B (io), A3 PT6A/DQS (io), A4 PT8B (io), A5 PT9B (io), A6 PT11B (io), A7 PT15A/PCLKT0_0 (io), A8 PT15B/PCLKC0_0 (io), B1 PT3A (io), B2 PT4A (io), B3 PT5B (io), B5 PT9A/DI (io), B6 PT8A/CSN (io), B7 PT14B (io), B8 PT16A/CS1N (io), C5 PT2A (io), C6 PT11A/WRITEN (io), C7 PT14A/DQS (io), D5 PT6B/VREF2_0 (io), D6 PT7A (io), D7 PT10A/VREF1_0 (io), D8 PT12A/DOUT (io), E6 PT7B (io), E7 PT10B (io), E8 PT13B (io), E9 PT16B/BUSY (io), F5 PT2B (io)
part B pins: A9 PT18A (io), A10 PT19B (io), A11 PT23A (io), A12 PT24B (io), A13 PT26B (io), A14 PT29B (io), A15 PT31B (io), B9 PT21B (io), B10 PT19A/D5 (io), B11 PT22B (io), B12 PT24A/D2 (io), B13 PT30B (io), B15 PT31A (io), C8 PT17A (io), C9 PT17B/D7 (io), C10 PT25B/D1 (io), C11 PT30A/DQS (io), C12 PT23B/D3 (io), C13 PT26A/D0 (io), D9 PT20A/D4 (io), D10 PT18B/D6 (io), D11 PT22A/DQS (io), D12 PT28A/VREF1_1 (io), E10 PT25A/VREF2_1 (io), E11 PT27A (io), F12 PT27B (io)
part C pins: B16 PR7B (io), C15 PR3A/RUM0_PLLT_FB_A (io), C16 PR7A/DQS (io), D15 PR3B/RUM0_PLLC_FB_A (io), E14 PR4A (io), E15 PR5A/VREF2_2 (io), F13 PR9A (io), F14 PR4B (io), F15 PR14A (io), F16 PR8A/RUM0_PLLT_IN_A (io), G12 PR9B (io), G13 PR2A (io), G14 PR11A (io), G15 PR11B (io), G16 PR8B/RUM0_PLLC_IN_A (io), H12 PR13A (io), H13 PR13B (io), H14 PR6B/VREF1_2 (io), H15 PR2B (io), H16 PR12A/PCLKT2_0 (io), J16 PR12B/PCLKC2_0 (io)
part D pins: J14 PR16A (io), J15 PR16B (io), K12 PR17A (io), K13 PR22A/VREF2_3 (io), K14 PR19B (io), K15 PR19A (io), K16 PR18A (io), L12 PR17B (io), L13 PR25A (io), L14 PR21A (io), L15 PR21B (io), L16 PR18B (io), M14 PR25B (io), M15 PR15B (io), M16 PR20B (io), N14 PR23B/VREF1_3 (io), N15 PR26A (io), N16 PR20A (io), P15 PR26B (io), P16 PR24B (io), R16 PR24A/DQS (io)
part E pins: M9 PB21B (io), M10 PB25B (io), M11 PB24A (io), N9 PB20A (io), N10 PB25A (io), N11 PB24B (io), N12 PB30B (io), P9 PB17B (io), P10 PB19B (io), P11 PB30A/DQS (io), P12 PB27B (io), P13 PB23A (io), P14 PB26B (io), R9 PB17A (io), R10 PB19A (io), R11 PB27A/VREF2_4 (io), R12 PB22A/DQS (io), R13 PB23B (io), R14 PB29B (io), R15 PB31B (io), T10 PB18A/PCLKT4_0 (io), T11 PB18B/PCLKC4_0 (io), T12 PB22B/VREF1_4 (io), T13 PB26A (io), T14 PB28A (io), T15 PB31A (io)
part F pins: M7 PB3A (io), M8 PB9B (io), N5 PB2B (io), N6 PB4A (io), N7 PB9A (io), N8 PB13B (io), P5 PB5B/VREF1_5 (io), P6 PB10B (io), P7 PB12A (io), P8 PB15A (io), R1 PB3B (io), R2 PB6A/DQS (io), R3 PB7A (io), R4 PB2A (io), R5 PB8B/VREF2_5 (io), R6 PB11B (io), R7 PB14A/DQS (io), R8 PB16A (io), T2 PB6B (io), T3 PB7B (io), T4 PB8A (io), T5 PB10A (io), T6 PB11A (io), T7 PB14B (io), T8 PB15B (io), T9 PB16B (io)
part G pins: J4 PL15B (io), J5 PL22A/VREF1_6 (io), K1 PL17A/PCLKT6_0 (io), K2 PL17B/PCLKC6_0 (io), K3 PL19A (io), K4 PL20A (io), K5 PL20B (io), L1 PL16A (io), L2 PL16B (io), L3 PL19B (io), L4 PL21A (io), L5 PL25A (io), M1 PL18A (io), M2 PL18B (io), M3 PL26A (io), M6 PL25B (io), N1 PL23B/VREF2_6 (io), N2 PL21B (io), N3 PL26B (io), P1 PL24A/DQS (io), P2 PL24B (io)
part H pins: D1 PL2A (io), D2 PL3A/LUM0_PLLT_FB_A (io), D3 PL3B/LUM0_PLLC_FB_A (io), E1 PL7A/DQS (io), E2 PL5A/VREF1_7 (io), E3 PL12A (io), F1 PL7B (io), F2 PL4B (io), F3 PL4A (io), F4 PL12B (io), G1 PL2B (io), G2 PL8B/LUM0_PLLC_IN_A (io), G3 PL8A/LUM0_PLLT_IN_A (io), G4 PL6B/VREF2_7 (io), G5 PL14A (io), H1 PL9A (io), H2 PL9B (io), H3 PL13A (io), J1 PL11A (io), J2 PL11B (io), J3 PL13B (io)
part I pins: B4 CFG1 (in), B14 TCK (in), C1 CCLK (io), C2 PROGRAMN (in), C3 DONE (io), C4 CFG0 (in), C14 TMS (in), D14 TDI (in), E16 TDO (out), P3 INITN (io), P4 SLEEPN (in)
part J pins: D4 VCC (power), D13 VCC (power), D16 VCCJ (power), E4 VCCAUX (power), E5 VCC (power), E12 VCC (power), E13 VCCAUX (power), F7 VCCIO0 (power), F8 VCCIO0 (power), F9 VCCIO1 (power), F10 VCCIO1 (power), G6 VCCIO7 (power), G11 VCCIO2 (power), H4 VCCP0 (power), H6 VCCIO7 (power), H11 VCCIO2 (power), J6 VCCIO6 (power), J11 VCCIO3 (power), J12 VCCP1 (power), K6 VCCIO6 (power), K11 VCCIO3 (power), L7 VCCIO5 (power), L8 VCCIO5 (power), L9 VCCIO4 (power), L10 VCCIO4 (power), M4 VCCAUX (power), M5 VCC (power), M12 VCC (power), M13 VCCAUX (power), N4 VCC (power), N13 VCC (power)
part K pins: A1 GND (power), A16 GND (power), F6 GND (power), F11 GND (power), G7 GND (power), G8 GND (power), G9 GND (power), G10 GND (power), H5 GNDP0 (power), H7 GND (power), H8 GND (power), H9 GND (power), H10 GND (power), J7 GND (power), J8 GND (power), J9 GND (power), J10 GND (power), J13 GNDP1 (power), K7 GND (power), K8 GND (power), K9 GND (power), K10 GND (power), L6 GND (power), L11 GND (power), T1 GND (power), T16 GND (power)
part A text: BANK 0
part B text: BANK 1
part C text: BANK 2
part D text: BANK 3
part E text: BANK 4
part F text: BANK 5
part G text: BANK 6
part H text: BANK 7

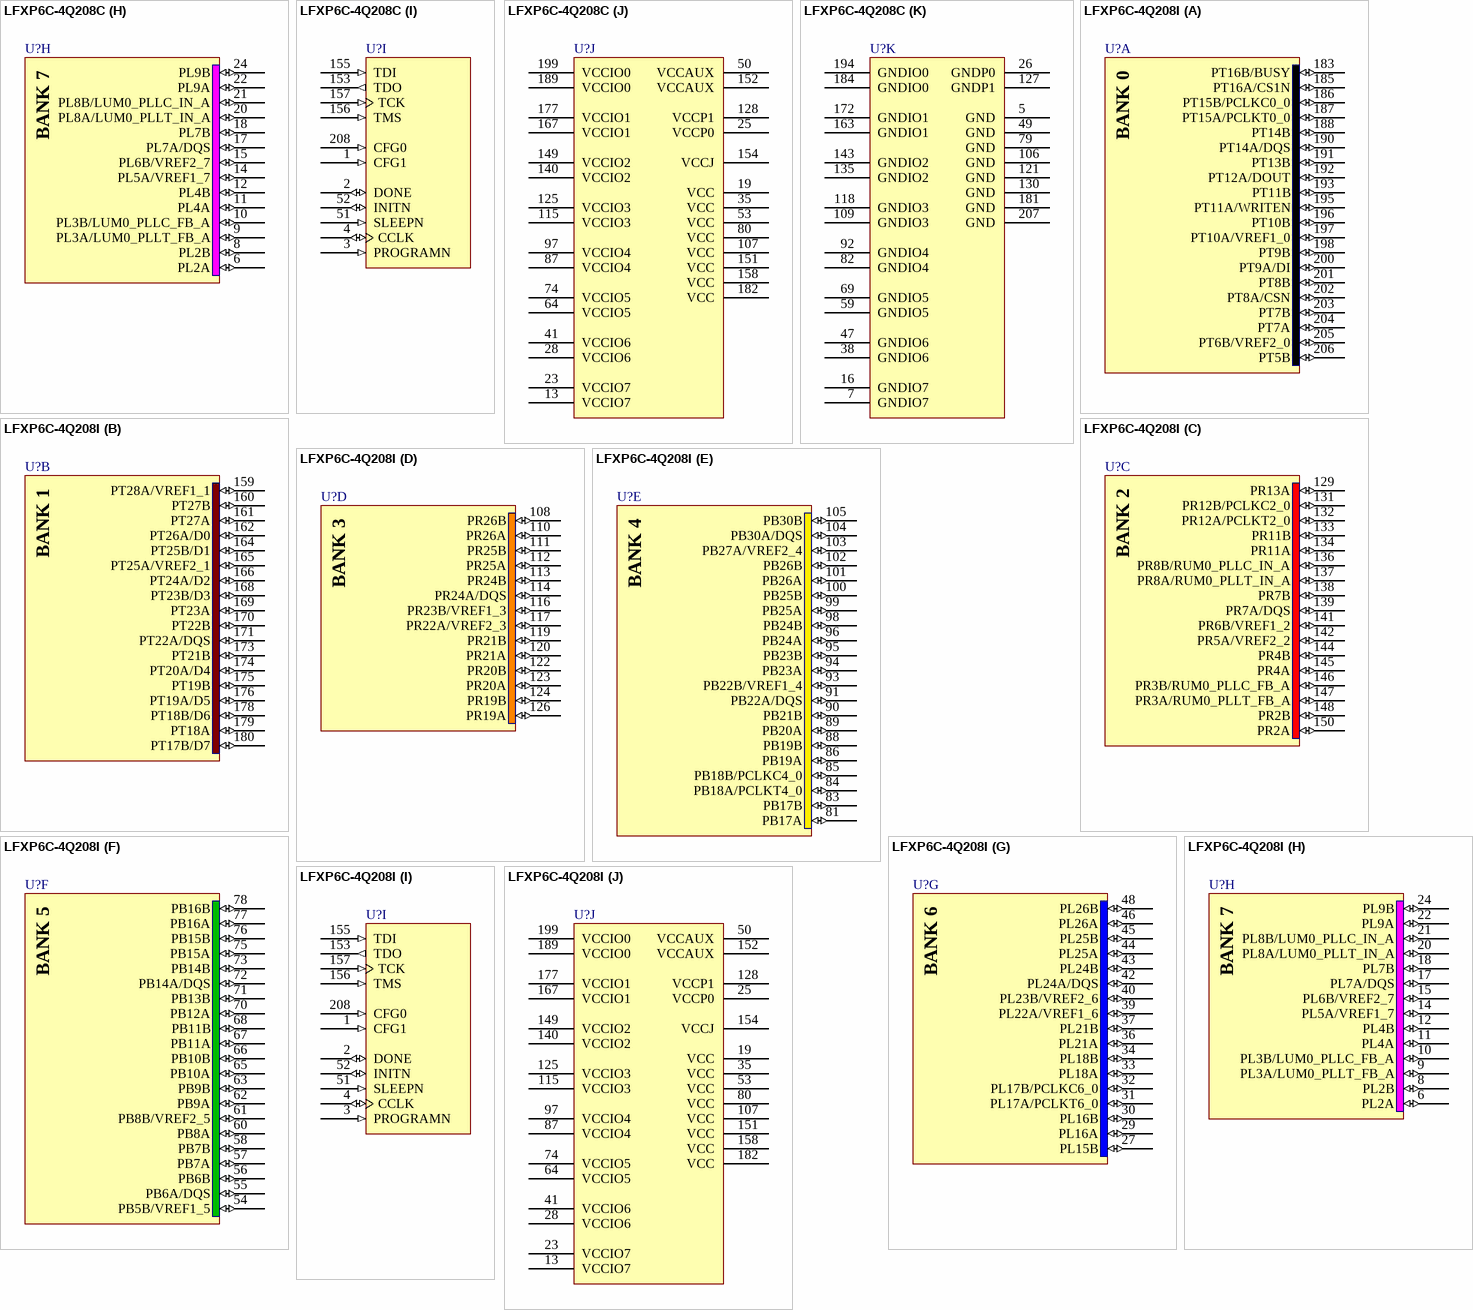
[diagram p45: symbols LFXP6C-4Q208C to LFXP6C-4Q208I]

## LFXP6C-4Q208C
designator U?
XP 1.8/2.5/3.3V FPGA, 142 I/Os, 6K LUTs, 208-Pin PQFP, Speed Grade 4, Commerical Grade; DatasheetVersion: ver05.1, Nov-2007; PackageVersion: ver01.8, Dec-2008; PackageReference: PQFP208; PackageDescription: 208-Pin Plastic Quad Flat Pack (PQFP208); Code_JEDEC: MO-143-FAI; ComponentLink1Description: Manufacturer URL; ComponentLink1URL: http://www.latticesemi.com/; ComponentLink2Description: Datasheet; ComponentLink2URL: http://www.latticesemi.com/lit/docs/datasheets/fpga/DS1001.pdf; ComponentLink3Description: Package Specification; ComponentLink3URL: http://www.latticesemi.com/lit/docs/package/pkg.pdf
footprint PQFP208_N (Shrink QFP, 208-Leads, Body 28x28mm, Pitch 0.5mm, IPC Medium Density)
footprint PQFP208_L (Shrink QFP, 208-Leads, Body 28x28mm, Pitch 0.5mm, IPC High Density)
footprint PQFP208_M (Shrink QFP, 208-Leads, Body 28x28mm, Pitch 0.5mm, IPC Low Density)
part A pins: 183 PT16B/BUSY (io), 185 PT16A/CS1N (io), 186 PT15B/PCLKC0_0 (io), 187 PT15A/PCLKT0_0 (io), 188 PT14B (io), 190 PT14A/DQS (io), 191 PT13B (io), 192 PT12A/DOUT (io), 193 PT11B (io), 195 PT11A/WRITEN (io), 196 PT10B (io), 197 PT10A/VREF1_0 (io), 198 PT9B (io), 200 PT9A/DI (io), 201 PT8B (io), 202 PT8A/CSN (io), 203 PT7B (io), 204 PT7A (io), 205 PT6B/VREF2_0 (io), 206 PT5B (io)
part B pins: 159 PT28A/VREF1_1 (io), 160 PT27B (io), 161 PT27A (io), 162 PT26A/D0 (io), 164 PT25B/D1 (io), 165 PT25A/VREF2_1 (io), 166 PT24A/D2 (io), 168 PT23B/D3 (io), 169 PT23A (io), 170 PT22B (io), 171 PT22A/DQS (io), 173 PT21B (io), 174 PT20A/D4 (io), 175 PT19B (io), 176 PT19A/D5 (io), 178 PT18B/D6 (io), 179 PT18A (io), 180 PT17B/D7 (io)
part C pins: 129 PR13A (io), 131 PR12B/PCLKC2_0 (io), 132 PR12A/PCLKT2_0 (io), 133 PR11B (io), 134 PR11A (io), 136 PR8B/RUM0_PLLC_IN_A (io), 137 PR8A/RUM0_PLLT_IN_A (io), 138 PR7B (io), 139 PR7A/DQS (io), 141 PR6B/VREF1_2 (io), 142 PR5A/VREF2_2 (io), 144 PR4B (io), 145 PR4A (io), 146 PR3B/RUM0_PLLC_FB_A (io), 147 PR3A/RUM0_PLLT_FB_A (io), 148 PR2B (io), 150 PR2A (io)
part D pins: 108 PR26B (io), 110 PR26A (io), 111 PR25B (io), 112 PR25A (io), 113 PR24B (io), 114 PR24A/DQS (io), 116 PR23B/VREF1_3 (io), 117 PR22A/VREF2_3 (io), 119 PR21B (io), 120 PR21A (io), 122 PR20B (io), 123 PR20A (io), 124 PR19B (io), 126 PR19A (io)
part E pins: 81 PB17A (io), 83 PB17B (io), 84 PB18A/PCLKT4_0 (io), 85 PB18B/PCLKC4_0 (io), 86 PB19A (io), 88 PB19B (io), 89 PB20A (io), 90 PB21B (io), 91 PB22A/DQS (io), 93 PB22B/VREF1_4 (io), 94 PB23A (io), 95 PB23B (io), 96 PB24A (io), 98 PB24B (io), 99 PB25A (io), 100 PB25B (io), 101 PB26A (io), 102 PB26B (io), 103 PB27A/VREF2_4 (io), 104 PB30A/DQS (io), 105 PB30B (io)
part F pins: 54 PB5B/VREF1_5 (io), 55 PB6A/DQS (io), 56 PB6B (io), 57 PB7A (io), 58 PB7B (io), 60 PB8A (io), 61 PB8B/VREF2_5 (io), 62 PB9A (io), 63 PB9B (io), 65 PB10A (io), 66 PB10B (io), 67 PB11A (io), 68 PB11B (io), 70 PB12A (io), 71 PB13B (io), 72 PB14A/DQS (io), 73 PB14B (io), 75 PB15A (io), 76 PB15B (io), 77 PB16A (io), 78 PB16B (io)
part G pins: 27 PL15B (io), 29 PL16A (io), 30 PL16B (io), 31 PL17A/PCLKT6_0 (io), 32 PL17B/PCLKC6_0 (io), 33 PL18A (io), 34 PL18B (io), 36 PL21A (io), 37 PL21B (io), 39 PL22A/VREF1_6 (io), 40 PL23B/VREF2_6 (io), 42 PL24A/DQS (io), 43 PL24B (io), 44 PL25A (io), 45 PL25B (io), 46 PL26A (io), 48 PL26B (io)
part H pins: 6 PL2A (io), 8 PL2B (io), 9 PL3A/LUM0_PLLT_FB_A (io), 10 PL3B/LUM0_PLLC_FB_A (io), 11 PL4A (io), 12 PL4B (io), 14 PL5A/VREF1_7 (io), 15 PL6B/VREF2_7 (io), 17 PL7A/DQS (io), 18 PL7B (io), 20 PL8A/LUM0_PLLT_IN_A (io), 21 PL8B/LUM0_PLLC_IN_A (io), 22 PL9A (io), 24 PL9B (io)
part I pins: 1 CFG1 (in), 2 DONE (io), 3 PROGRAMN (in), 4 CCLK (io), 51 SLEEPN (in), 52 INITN (io), 153 TDO (out), 155 TDI (in), 156 TMS (in), 157 TCK (in), 208 CFG0 (in)
part J pins: 13 VCCIO7 (power), 19 VCC (power), 23 VCCIO7 (power), 25 VCCP0 (power), 28 VCCIO6 (power), 35 VCC (power), 41 VCCIO6 (power), 50 VCCAUX (power), 53 VCC (power), 64 VCCIO5 (power), 74 VCCIO5 (power), 80 VCC (power), 87 VCCIO4 (power), 97 VCCIO4 (power), 107 VCC (power), 115 VCCIO3 (power), 125 VCCIO3 (power), 128 VCCP1 (power), 140 VCCIO2 (power), 149 VCCIO2 (power), 151 VCC (power), 152 VCCAUX (power), 154 VCCJ (power), 158 VCC (power), 167 VCCIO1 (power), 177 VCCIO1 (power), 182 VCC (power), 189 VCCIO0 (power), 199 VCCIO0 (power)
part K pins: 5 GND (power), 7 GNDIO7 (power), 16 GNDIO7 (power), 26 GNDP0 (power), 38 GNDIO6 (power), 47 GNDIO6 (power), 49 GND (power), 59 GNDIO5 (power), 69 GNDIO5 (power), 79 GND (power), 82 GNDIO4 (power), 92 GNDIO4 (power), 106 GND (power), 109 GNDIO3 (power), 118 GNDIO3 (power), 121 GND (power), 127 GNDP1 (power), 130 GND (power), 135 GNDIO2 (power), 143 GNDIO2 (power), 163 GNDIO1 (power), 172 GNDIO1 (power), 181 GND (power), 184 GNDIO0 (power), 194 GNDIO0 (power), 207 GND (power)
part A text: BANK 0
part B text: BANK 1
part C text: BANK 2
part D text: BANK 3
part E text: BANK 4
part F text: BANK 5
part G text: BANK 6
part H text: BANK 7

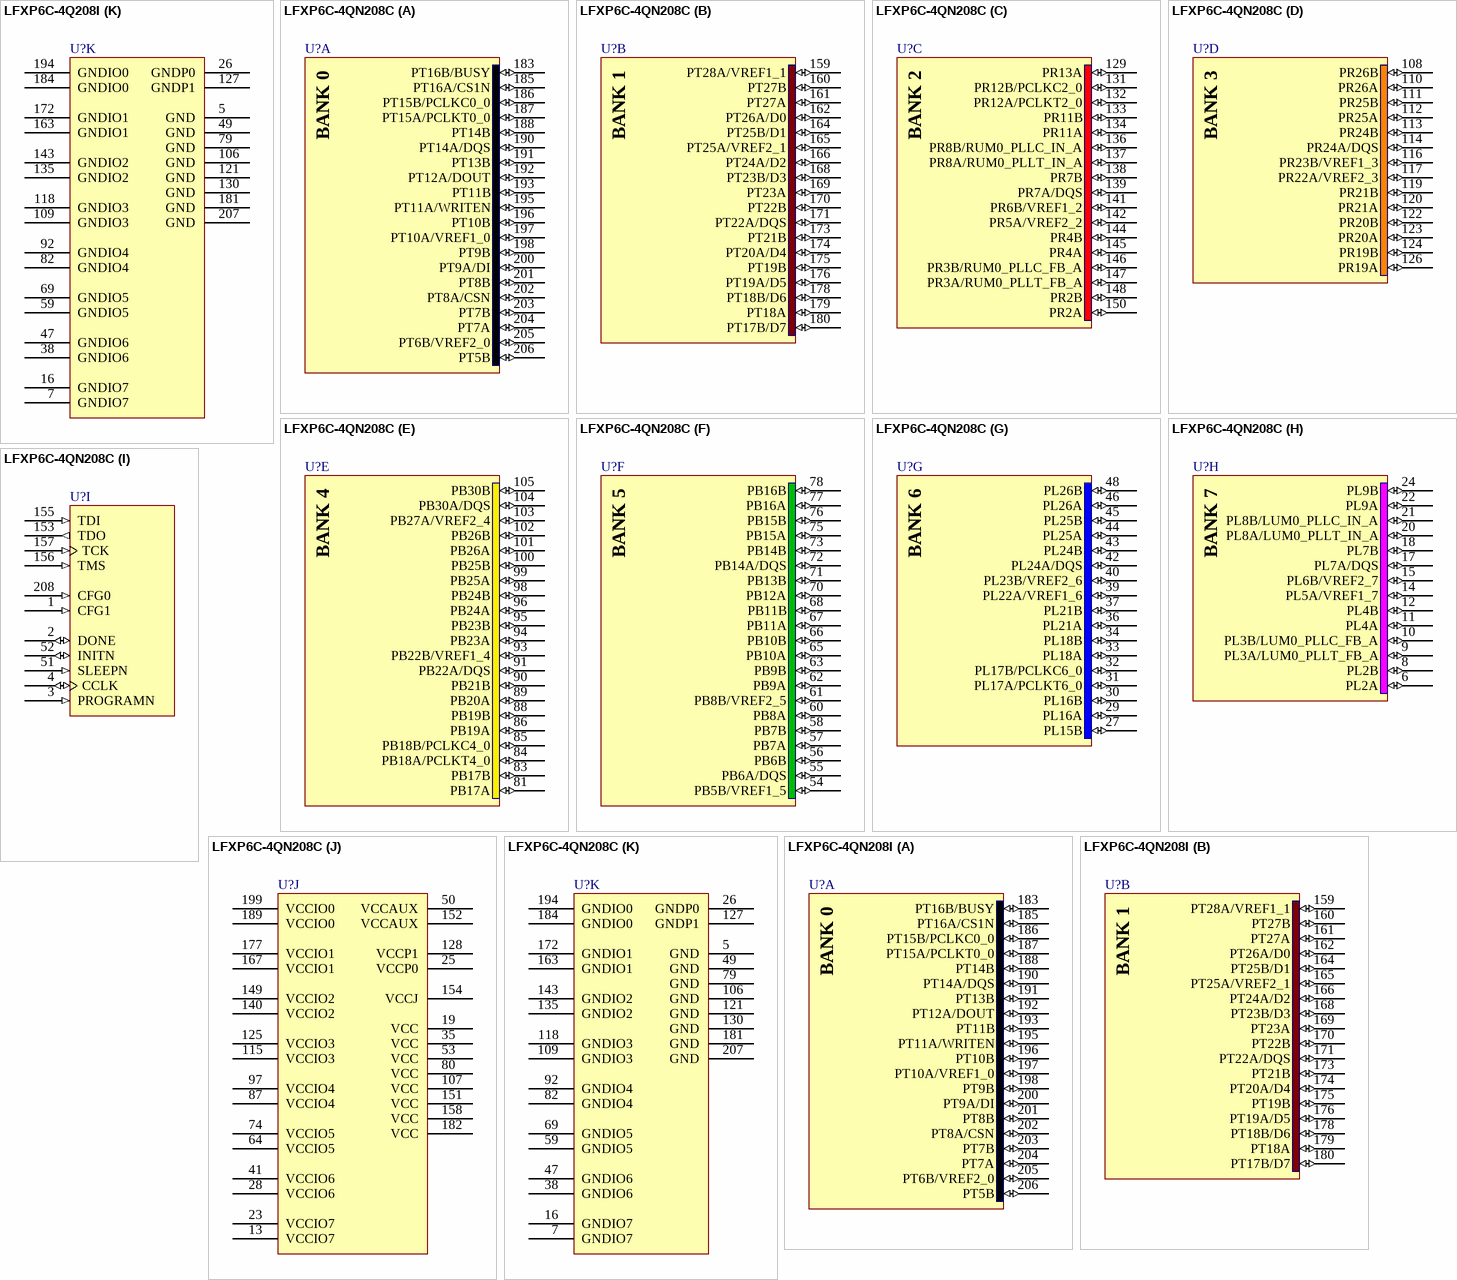
[diagram p46: symbols LFXP6C-4Q208I to LFXP6C-4QN208I]

## LFXP6C-4Q208I
designator U?
XP 1.8/2.5/3.3V FPGA, 142 I/Os, 6K LUTs, 208-Pin PQFP, Speed Grade 4, Industrial Grade; DatasheetVersion: ver05.1, Nov-2007; PackageVersion: ver01.8, Dec-2008; PackageReference: PQFP208; PackageDescription: 208-Pin Plastic Quad Flat Pack (PQFP208); Code_JEDEC: MO-143-FAI; ComponentLink1Description: Manufacturer URL; ComponentLink1URL: http://www.latticesemi.com/; ComponentLink2Description: Datasheet; ComponentLink2URL: http://www.latticesemi.com/lit/docs/datasheets/fpga/DS1001.pdf; ComponentLink3Description: Package Specification; ComponentLink3URL: http://www.latticesemi.com/lit/docs/package/pkg.pdf
footprint PQFP208_N (Shrink QFP, 208-Leads, Body 28x28mm, Pitch 0.5mm, IPC Medium Density)
footprint PQFP208_L (Shrink QFP, 208-Leads, Body 28x28mm, Pitch 0.5mm, IPC High Density)
footprint PQFP208_M (Shrink QFP, 208-Leads, Body 28x28mm, Pitch 0.5mm, IPC Low Density)
part A pins: 183 PT16B/BUSY (io), 185 PT16A/CS1N (io), 186 PT15B/PCLKC0_0 (io), 187 PT15A/PCLKT0_0 (io), 188 PT14B (io), 190 PT14A/DQS (io), 191 PT13B (io), 192 PT12A/DOUT (io), 193 PT11B (io), 195 PT11A/WRITEN (io), 196 PT10B (io), 197 PT10A/VREF1_0 (io), 198 PT9B (io), 200 PT9A/DI (io), 201 PT8B (io), 202 PT8A/CSN (io), 203 PT7B (io), 204 PT7A (io), 205 PT6B/VREF2_0 (io), 206 PT5B (io)
part B pins: 159 PT28A/VREF1_1 (io), 160 PT27B (io), 161 PT27A (io), 162 PT26A/D0 (io), 164 PT25B/D1 (io), 165 PT25A/VREF2_1 (io), 166 PT24A/D2 (io), 168 PT23B/D3 (io), 169 PT23A (io), 170 PT22B (io), 171 PT22A/DQS (io), 173 PT21B (io), 174 PT20A/D4 (io), 175 PT19B (io), 176 PT19A/D5 (io), 178 PT18B/D6 (io), 179 PT18A (io), 180 PT17B/D7 (io)
part C pins: 129 PR13A (io), 131 PR12B/PCLKC2_0 (io), 132 PR12A/PCLKT2_0 (io), 133 PR11B (io), 134 PR11A (io), 136 PR8B/RUM0_PLLC_IN_A (io), 137 PR8A/RUM0_PLLT_IN_A (io), 138 PR7B (io), 139 PR7A/DQS (io), 141 PR6B/VREF1_2 (io), 142 PR5A/VREF2_2 (io), 144 PR4B (io), 145 PR4A (io), 146 PR3B/RUM0_PLLC_FB_A (io), 147 PR3A/RUM0_PLLT_FB_A (io), 148 PR2B (io), 150 PR2A (io)
part D pins: 108 PR26B (io), 110 PR26A (io), 111 PR25B (io), 112 PR25A (io), 113 PR24B (io), 114 PR24A/DQS (io), 116 PR23B/VREF1_3 (io), 117 PR22A/VREF2_3 (io), 119 PR21B (io), 120 PR21A (io), 122 PR20B (io), 123 PR20A (io), 124 PR19B (io), 126 PR19A (io)
part E pins: 81 PB17A (io), 83 PB17B (io), 84 PB18A/PCLKT4_0 (io), 85 PB18B/PCLKC4_0 (io), 86 PB19A (io), 88 PB19B (io), 89 PB20A (io), 90 PB21B (io), 91 PB22A/DQS (io), 93 PB22B/VREF1_4 (io), 94 PB23A (io), 95 PB23B (io), 96 PB24A (io), 98 PB24B (io), 99 PB25A (io), 100 PB25B (io), 101 PB26A (io), 102 PB26B (io), 103 PB27A/VREF2_4 (io), 104 PB30A/DQS (io), 105 PB30B (io)
part F pins: 54 PB5B/VREF1_5 (io), 55 PB6A/DQS (io), 56 PB6B (io), 57 PB7A (io), 58 PB7B (io), 60 PB8A (io), 61 PB8B/VREF2_5 (io), 62 PB9A (io), 63 PB9B (io), 65 PB10A (io), 66 PB10B (io), 67 PB11A (io), 68 PB11B (io), 70 PB12A (io), 71 PB13B (io), 72 PB14A/DQS (io), 73 PB14B (io), 75 PB15A (io), 76 PB15B (io), 77 PB16A (io), 78 PB16B (io)
part G pins: 27 PL15B (io), 29 PL16A (io), 30 PL16B (io), 31 PL17A/PCLKT6_0 (io), 32 PL17B/PCLKC6_0 (io), 33 PL18A (io), 34 PL18B (io), 36 PL21A (io), 37 PL21B (io), 39 PL22A/VREF1_6 (io), 40 PL23B/VREF2_6 (io), 42 PL24A/DQS (io), 43 PL24B (io), 44 PL25A (io), 45 PL25B (io), 46 PL26A (io), 48 PL26B (io)
part H pins: 6 PL2A (io), 8 PL2B (io), 9 PL3A/LUM0_PLLT_FB_A (io), 10 PL3B/LUM0_PLLC_FB_A (io), 11 PL4A (io), 12 PL4B (io), 14 PL5A/VREF1_7 (io), 15 PL6B/VREF2_7 (io), 17 PL7A/DQS (io), 18 PL7B (io), 20 PL8A/LUM0_PLLT_IN_A (io), 21 PL8B/LUM0_PLLC_IN_A (io), 22 PL9A (io), 24 PL9B (io)
part I pins: 1 CFG1 (in), 2 DONE (io), 3 PROGRAMN (in), 4 CCLK (io), 51 SLEEPN (in), 52 INITN (io), 153 TDO (out), 155 TDI (in), 156 TMS (in), 157 TCK (in), 208 CFG0 (in)
part J pins: 13 VCCIO7 (power), 19 VCC (power), 23 VCCIO7 (power), 25 VCCP0 (power), 28 VCCIO6 (power), 35 VCC (power), 41 VCCIO6 (power), 50 VCCAUX (power), 53 VCC (power), 64 VCCIO5 (power), 74 VCCIO5 (power), 80 VCC (power), 87 VCCIO4 (power), 97 VCCIO4 (power), 107 VCC (power), 115 VCCIO3 (power), 125 VCCIO3 (power), 128 VCCP1 (power), 140 VCCIO2 (power), 149 VCCIO2 (power), 151 VCC (power), 152 VCCAUX (power), 154 VCCJ (power), 158 VCC (power), 167 VCCIO1 (power), 177 VCCIO1 (power), 182 VCC (power), 189 VCCIO0 (power), 199 VCCIO0 (power)
part K pins: 5 GND (power), 7 GNDIO7 (power), 16 GNDIO7 (power), 26 GNDP0 (power), 38 GNDIO6 (power), 47 GNDIO6 (power), 49 GND (power), 59 GNDIO5 (power), 69 GNDIO5 (power), 79 GND (power), 82 GNDIO4 (power), 92 GNDIO4 (power), 106 GND (power), 109 GNDIO3 (power), 118 GNDIO3 (power), 121 GND (power), 127 GNDP1 (power), 130 GND (power), 135 GNDIO2 (power), 143 GNDIO2 (power), 163 GNDIO1 (power), 172 GNDIO1 (power), 181 GND (power), 184 GNDIO0 (power), 194 GNDIO0 (power), 207 GND (power)
part A text: BANK 0
part B text: BANK 1
part C text: BANK 2
part D text: BANK 3
part E text: BANK 4
part F text: BANK 5
part G text: BANK 6
part H text: BANK 7

## LFXP6C-4QN208C
designator U?
XP 1.8/2.5/3.3V FPGA, 142 I/Os, 6K LUTs, 208-Pin PQFP, Speed Grade 4, Commercial Grade, Pb-Free; DatasheetVersion: ver05.1, Nov-2007; PackageVersion: ver01.8, Dec-2008; PackageReference: PQFP208; PackageDescription: 208-Pin Plastic Quad Flat Pack (PQFP208); Code_JEDEC: MO-143-FAI; ComponentLink1Description: Manufacturer URL; ComponentLink1URL: http://www.latticesemi.com/; ComponentLink2Description: Datasheet; ComponentLink2URL: http://www.latticesemi.com/lit/docs/datasheets/fpga/DS1001.pdf; ComponentLink3Description: Package Specification; ComponentLink3URL: http://www.latticesemi.com/lit/docs/package/pkg.pdf
footprint PQFP208_N (Shrink QFP, 208-Leads, Body 28x28mm, Pitch 0.5mm, IPC Medium Density)
footprint PQFP208_L (Shrink QFP, 208-Leads, Body 28x28mm, Pitch 0.5mm, IPC High Density)
footprint PQFP208_M (Shrink QFP, 208-Leads, Body 28x28mm, Pitch 0.5mm, IPC Low Density)
part A pins: 183 PT16B/BUSY (io), 185 PT16A/CS1N (io), 186 PT15B/PCLKC0_0 (io), 187 PT15A/PCLKT0_0 (io), 188 PT14B (io), 190 PT14A/DQS (io), 191 PT13B (io), 192 PT12A/DOUT (io), 193 PT11B (io), 195 PT11A/WRITEN (io), 196 PT10B (io), 197 PT10A/VREF1_0 (io), 198 PT9B (io), 200 PT9A/DI (io), 201 PT8B (io), 202 PT8A/CSN (io), 203 PT7B (io), 204 PT7A (io), 205 PT6B/VREF2_0 (io), 206 PT5B (io)
part B pins: 159 PT28A/VREF1_1 (io), 160 PT27B (io), 161 PT27A (io), 162 PT26A/D0 (io), 164 PT25B/D1 (io), 165 PT25A/VREF2_1 (io), 166 PT24A/D2 (io), 168 PT23B/D3 (io), 169 PT23A (io), 170 PT22B (io), 171 PT22A/DQS (io), 173 PT21B (io), 174 PT20A/D4 (io), 175 PT19B (io), 176 PT19A/D5 (io), 178 PT18B/D6 (io), 179 PT18A (io), 180 PT17B/D7 (io)
part C pins: 129 PR13A (io), 131 PR12B/PCLKC2_0 (io), 132 PR12A/PCLKT2_0 (io), 133 PR11B (io), 134 PR11A (io), 136 PR8B/RUM0_PLLC_IN_A (io), 137 PR8A/RUM0_PLLT_IN_A (io), 138 PR7B (io), 139 PR7A/DQS (io), 141 PR6B/VREF1_2 (io), 142 PR5A/VREF2_2 (io), 144 PR4B (io), 145 PR4A (io), 146 PR3B/RUM0_PLLC_FB_A (io), 147 PR3A/RUM0_PLLT_FB_A (io), 148 PR2B (io), 150 PR2A (io)
part D pins: 108 PR26B (io), 110 PR26A (io), 111 PR25B (io), 112 PR25A (io), 113 PR24B (io), 114 PR24A/DQS (io), 116 PR23B/VREF1_3 (io), 117 PR22A/VREF2_3 (io), 119 PR21B (io), 120 PR21A (io), 122 PR20B (io), 123 PR20A (io), 124 PR19B (io), 126 PR19A (io)
part E pins: 81 PB17A (io), 83 PB17B (io), 84 PB18A/PCLKT4_0 (io), 85 PB18B/PCLKC4_0 (io), 86 PB19A (io), 88 PB19B (io), 89 PB20A (io), 90 PB21B (io), 91 PB22A/DQS (io), 93 PB22B/VREF1_4 (io), 94 PB23A (io), 95 PB23B (io), 96 PB24A (io), 98 PB24B (io), 99 PB25A (io), 100 PB25B (io), 101 PB26A (io), 102 PB26B (io), 103 PB27A/VREF2_4 (io), 104 PB30A/DQS (io), 105 PB30B (io)
part F pins: 54 PB5B/VREF1_5 (io), 55 PB6A/DQS (io), 56 PB6B (io), 57 PB7A (io), 58 PB7B (io), 60 PB8A (io), 61 PB8B/VREF2_5 (io), 62 PB9A (io), 63 PB9B (io), 65 PB10A (io), 66 PB10B (io), 67 PB11A (io), 68 PB11B (io), 70 PB12A (io), 71 PB13B (io), 72 PB14A/DQS (io), 73 PB14B (io), 75 PB15A (io), 76 PB15B (io), 77 PB16A (io), 78 PB16B (io)
part G pins: 27 PL15B (io), 29 PL16A (io), 30 PL16B (io), 31 PL17A/PCLKT6_0 (io), 32 PL17B/PCLKC6_0 (io), 33 PL18A (io), 34 PL18B (io), 36 PL21A (io), 37 PL21B (io), 39 PL22A/VREF1_6 (io), 40 PL23B/VREF2_6 (io), 42 PL24A/DQS (io), 43 PL24B (io), 44 PL25A (io), 45 PL25B (io), 46 PL26A (io), 48 PL26B (io)
part H pins: 6 PL2A (io), 8 PL2B (io), 9 PL3A/LUM0_PLLT_FB_A (io), 10 PL3B/LUM0_PLLC_FB_A (io), 11 PL4A (io), 12 PL4B (io), 14 PL5A/VREF1_7 (io), 15 PL6B/VREF2_7 (io), 17 PL7A/DQS (io), 18 PL7B (io), 20 PL8A/LUM0_PLLT_IN_A (io), 21 PL8B/LUM0_PLLC_IN_A (io), 22 PL9A (io), 24 PL9B (io)
part I pins: 1 CFG1 (in), 2 DONE (io), 3 PROGRAMN (in), 4 CCLK (io), 51 SLEEPN (in), 52 INITN (io), 153 TDO (out), 155 TDI (in), 156 TMS (in), 157 TCK (in), 208 CFG0 (in)
part J pins: 13 VCCIO7 (power), 19 VCC (power), 23 VCCIO7 (power), 25 VCCP0 (power), 28 VCCIO6 (power), 35 VCC (power), 41 VCCIO6 (power), 50 VCCAUX (power), 53 VCC (power), 64 VCCIO5 (power), 74 VCCIO5 (power), 80 VCC (power), 87 VCCIO4 (power), 97 VCCIO4 (power), 107 VCC (power), 115 VCCIO3 (power), 125 VCCIO3 (power), 128 VCCP1 (power), 140 VCCIO2 (power), 149 VCCIO2 (power), 151 VCC (power), 152 VCCAUX (power), 154 VCCJ (power), 158 VCC (power), 167 VCCIO1 (power), 177 VCCIO1 (power), 182 VCC (power), 189 VCCIO0 (power), 199 VCCIO0 (power)
part K pins: 5 GND (power), 7 GNDIO7 (power), 16 GNDIO7 (power), 26 GNDP0 (power), 38 GNDIO6 (power), 47 GNDIO6 (power), 49 GND (power), 59 GNDIO5 (power), 69 GNDIO5 (power), 79 GND (power), 82 GNDIO4 (power), 92 GNDIO4 (power), 106 GND (power), 109 GNDIO3 (power), 118 GNDIO3 (power), 121 GND (power), 127 GNDP1 (power), 130 GND (power), 135 GNDIO2 (power), 143 GNDIO2 (power), 163 GNDIO1 (power), 172 GNDIO1 (power), 181 GND (power), 184 GNDIO0 (power), 194 GNDIO0 (power), 207 GND (power)
part A text: BANK 0
part B text: BANK 1
part C text: BANK 2
part D text: BANK 3
part E text: BANK 4
part F text: BANK 5
part G text: BANK 6
part H text: BANK 7

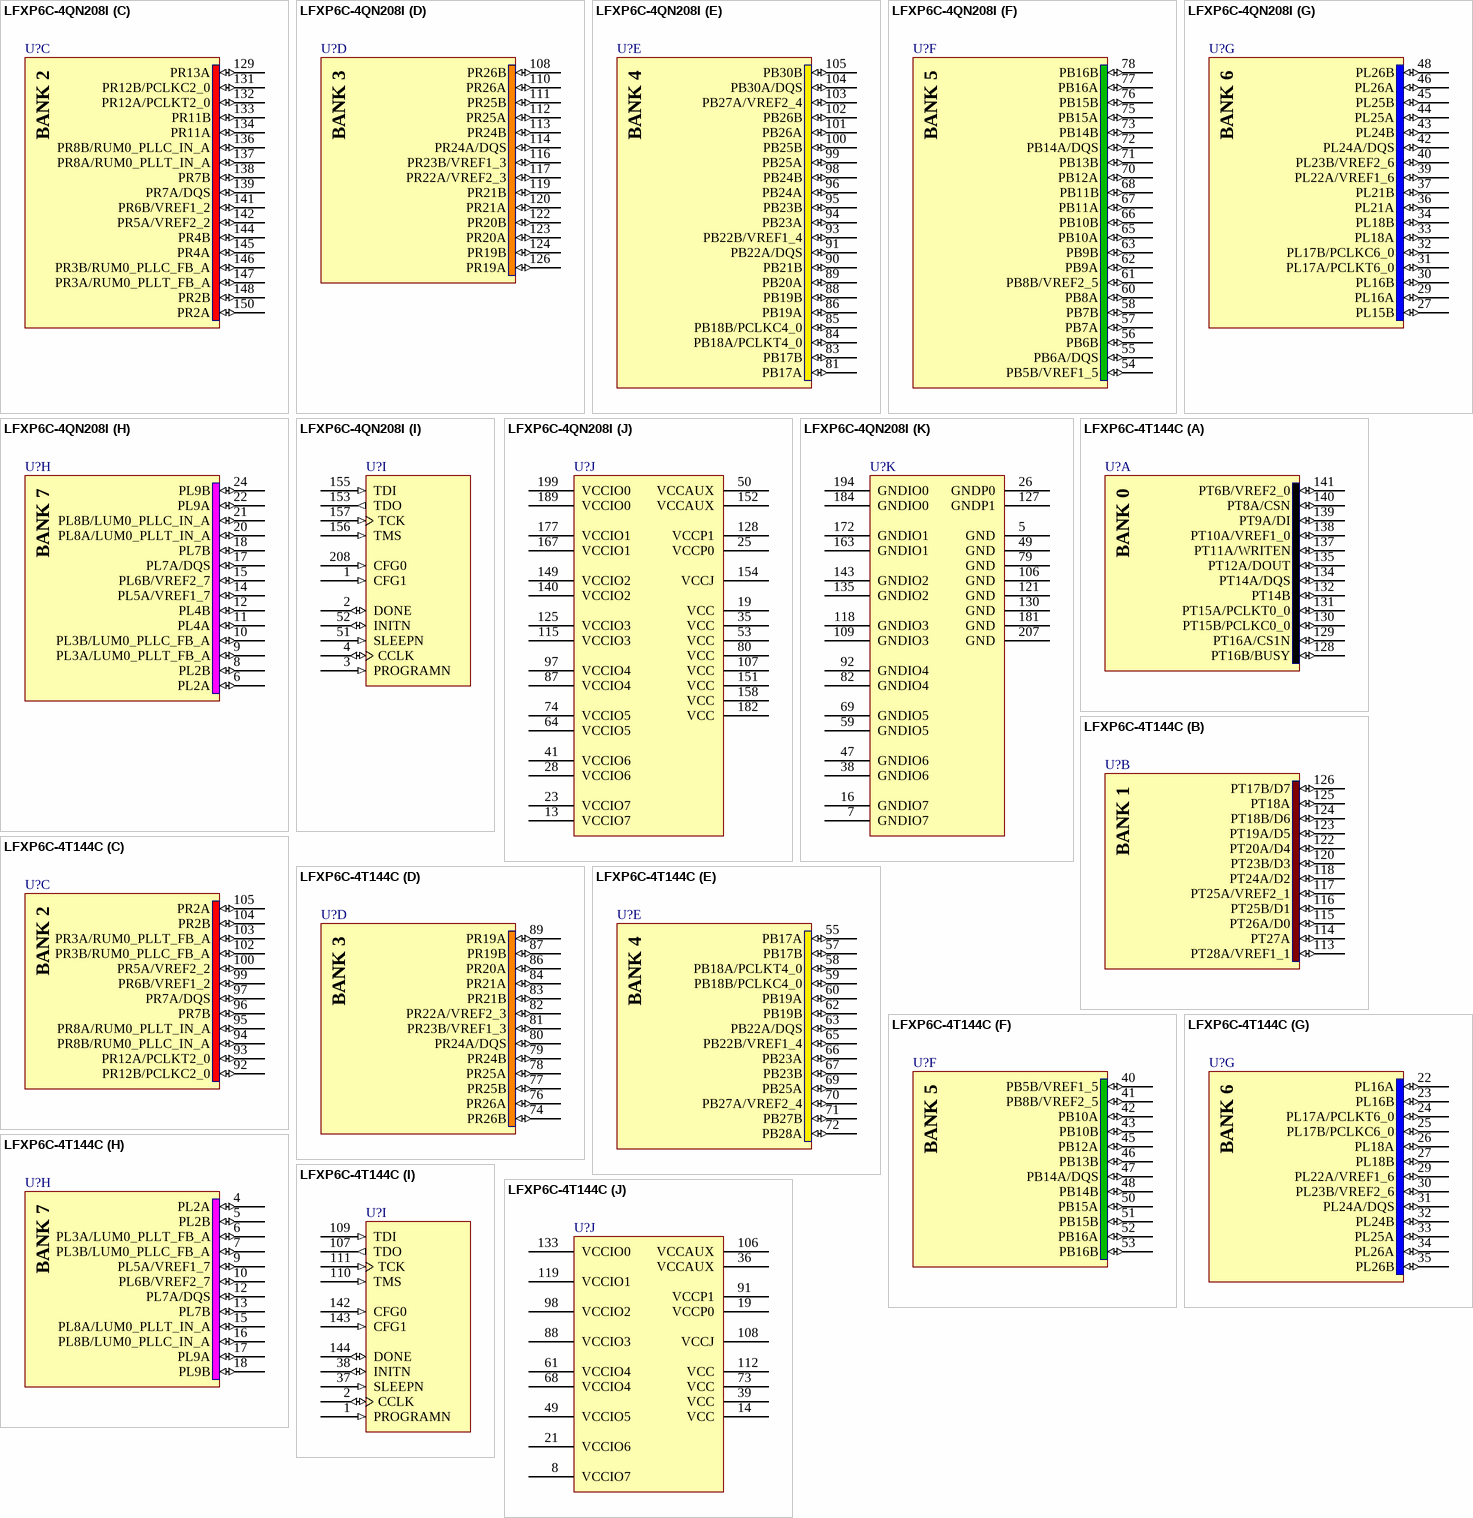
[diagram p47: symbols LFXP6C-4QN208I to LFXP6C-4T144C]

## LFXP6C-4QN208I
designator U?
XP 1.8/2.5/3.3V FPGA, 142 I/Os, 6K LUTs, 208-Pin PQFP, Speed Grade 4, Industrial Grade, Pb-Free; DatasheetVersion: ver05.1, Nov-2007; PackageVersion: ver01.8, Dec-2008; PackageReference: PQFP208; PackageDescription: 208-Pin Plastic Quad Flat Pack (PQFP208); Code_JEDEC: MO-143-FAI; ComponentLink1Description: Manufacturer URL; ComponentLink1URL: http://www.latticesemi.com/; ComponentLink2Description: Datasheet; ComponentLink2URL: http://www.latticesemi.com/lit/docs/datasheets/fpga/DS1001.pdf; ComponentLink3Description: Package Specification; ComponentLink3URL: http://www.latticesemi.com/lit/docs/package/pkg.pdf
footprint PQFP208_N (Shrink QFP, 208-Leads, Body 28x28mm, Pitch 0.5mm, IPC Medium Density)
footprint PQFP208_L (Shrink QFP, 208-Leads, Body 28x28mm, Pitch 0.5mm, IPC High Density)
footprint PQFP208_M (Shrink QFP, 208-Leads, Body 28x28mm, Pitch 0.5mm, IPC Low Density)
part A pins: 183 PT16B/BUSY (io), 185 PT16A/CS1N (io), 186 PT15B/PCLKC0_0 (io), 187 PT15A/PCLKT0_0 (io), 188 PT14B (io), 190 PT14A/DQS (io), 191 PT13B (io), 192 PT12A/DOUT (io), 193 PT11B (io), 195 PT11A/WRITEN (io), 196 PT10B (io), 197 PT10A/VREF1_0 (io), 198 PT9B (io), 200 PT9A/DI (io), 201 PT8B (io), 202 PT8A/CSN (io), 203 PT7B (io), 204 PT7A (io), 205 PT6B/VREF2_0 (io), 206 PT5B (io)
part B pins: 159 PT28A/VREF1_1 (io), 160 PT27B (io), 161 PT27A (io), 162 PT26A/D0 (io), 164 PT25B/D1 (io), 165 PT25A/VREF2_1 (io), 166 PT24A/D2 (io), 168 PT23B/D3 (io), 169 PT23A (io), 170 PT22B (io), 171 PT22A/DQS (io), 173 PT21B (io), 174 PT20A/D4 (io), 175 PT19B (io), 176 PT19A/D5 (io), 178 PT18B/D6 (io), 179 PT18A (io), 180 PT17B/D7 (io)
part C pins: 129 PR13A (io), 131 PR12B/PCLKC2_0 (io), 132 PR12A/PCLKT2_0 (io), 133 PR11B (io), 134 PR11A (io), 136 PR8B/RUM0_PLLC_IN_A (io), 137 PR8A/RUM0_PLLT_IN_A (io), 138 PR7B (io), 139 PR7A/DQS (io), 141 PR6B/VREF1_2 (io), 142 PR5A/VREF2_2 (io), 144 PR4B (io), 145 PR4A (io), 146 PR3B/RUM0_PLLC_FB_A (io), 147 PR3A/RUM0_PLLT_FB_A (io), 148 PR2B (io), 150 PR2A (io)
part D pins: 108 PR26B (io), 110 PR26A (io), 111 PR25B (io), 112 PR25A (io), 113 PR24B (io), 114 PR24A/DQS (io), 116 PR23B/VREF1_3 (io), 117 PR22A/VREF2_3 (io), 119 PR21B (io), 120 PR21A (io), 122 PR20B (io), 123 PR20A (io), 124 PR19B (io), 126 PR19A (io)
part E pins: 81 PB17A (io), 83 PB17B (io), 84 PB18A/PCLKT4_0 (io), 85 PB18B/PCLKC4_0 (io), 86 PB19A (io), 88 PB19B (io), 89 PB20A (io), 90 PB21B (io), 91 PB22A/DQS (io), 93 PB22B/VREF1_4 (io), 94 PB23A (io), 95 PB23B (io), 96 PB24A (io), 98 PB24B (io), 99 PB25A (io), 100 PB25B (io), 101 PB26A (io), 102 PB26B (io), 103 PB27A/VREF2_4 (io), 104 PB30A/DQS (io), 105 PB30B (io)
part F pins: 54 PB5B/VREF1_5 (io), 55 PB6A/DQS (io), 56 PB6B (io), 57 PB7A (io), 58 PB7B (io), 60 PB8A (io), 61 PB8B/VREF2_5 (io), 62 PB9A (io), 63 PB9B (io), 65 PB10A (io), 66 PB10B (io), 67 PB11A (io), 68 PB11B (io), 70 PB12A (io), 71 PB13B (io), 72 PB14A/DQS (io), 73 PB14B (io), 75 PB15A (io), 76 PB15B (io), 77 PB16A (io), 78 PB16B (io)
part G pins: 27 PL15B (io), 29 PL16A (io), 30 PL16B (io), 31 PL17A/PCLKT6_0 (io), 32 PL17B/PCLKC6_0 (io), 33 PL18A (io), 34 PL18B (io), 36 PL21A (io), 37 PL21B (io), 39 PL22A/VREF1_6 (io), 40 PL23B/VREF2_6 (io), 42 PL24A/DQS (io), 43 PL24B (io), 44 PL25A (io), 45 PL25B (io), 46 PL26A (io), 48 PL26B (io)
part H pins: 6 PL2A (io), 8 PL2B (io), 9 PL3A/LUM0_PLLT_FB_A (io), 10 PL3B/LUM0_PLLC_FB_A (io), 11 PL4A (io), 12 PL4B (io), 14 PL5A/VREF1_7 (io), 15 PL6B/VREF2_7 (io), 17 PL7A/DQS (io), 18 PL7B (io), 20 PL8A/LUM0_PLLT_IN_A (io), 21 PL8B/LUM0_PLLC_IN_A (io), 22 PL9A (io), 24 PL9B (io)
part I pins: 1 CFG1 (in), 2 DONE (io), 3 PROGRAMN (in), 4 CCLK (io), 51 SLEEPN (in), 52 INITN (io), 153 TDO (out), 155 TDI (in), 156 TMS (in), 157 TCK (in), 208 CFG0 (in)
part J pins: 13 VCCIO7 (power), 19 VCC (power), 23 VCCIO7 (power), 25 VCCP0 (power), 28 VCCIO6 (power), 35 VCC (power), 41 VCCIO6 (power), 50 VCCAUX (power), 53 VCC (power), 64 VCCIO5 (power), 74 VCCIO5 (power), 80 VCC (power), 87 VCCIO4 (power), 97 VCCIO4 (power), 107 VCC (power), 115 VCCIO3 (power), 125 VCCIO3 (power), 128 VCCP1 (power), 140 VCCIO2 (power), 149 VCCIO2 (power), 151 VCC (power), 152 VCCAUX (power), 154 VCCJ (power), 158 VCC (power), 167 VCCIO1 (power), 177 VCCIO1 (power), 182 VCC (power), 189 VCCIO0 (power), 199 VCCIO0 (power)
part K pins: 5 GND (power), 7 GNDIO7 (power), 16 GNDIO7 (power), 26 GNDP0 (power), 38 GNDIO6 (power), 47 GNDIO6 (power), 49 GND (power), 59 GNDIO5 (power), 69 GNDIO5 (power), 79 GND (power), 82 GNDIO4 (power), 92 GNDIO4 (power), 106 GND (power), 109 GNDIO3 (power), 118 GNDIO3 (power), 121 GND (power), 127 GNDP1 (power), 130 GND (power), 135 GNDIO2 (power), 143 GNDIO2 (power), 163 GNDIO1 (power), 172 GNDIO1 (power), 181 GND (power), 184 GNDIO0 (power), 194 GNDIO0 (power), 207 GND (power)
part A text: BANK 0
part B text: BANK 1
part C text: BANK 2
part D text: BANK 3
part E text: BANK 4
part F text: BANK 5
part G text: BANK 6
part H text: BANK 7

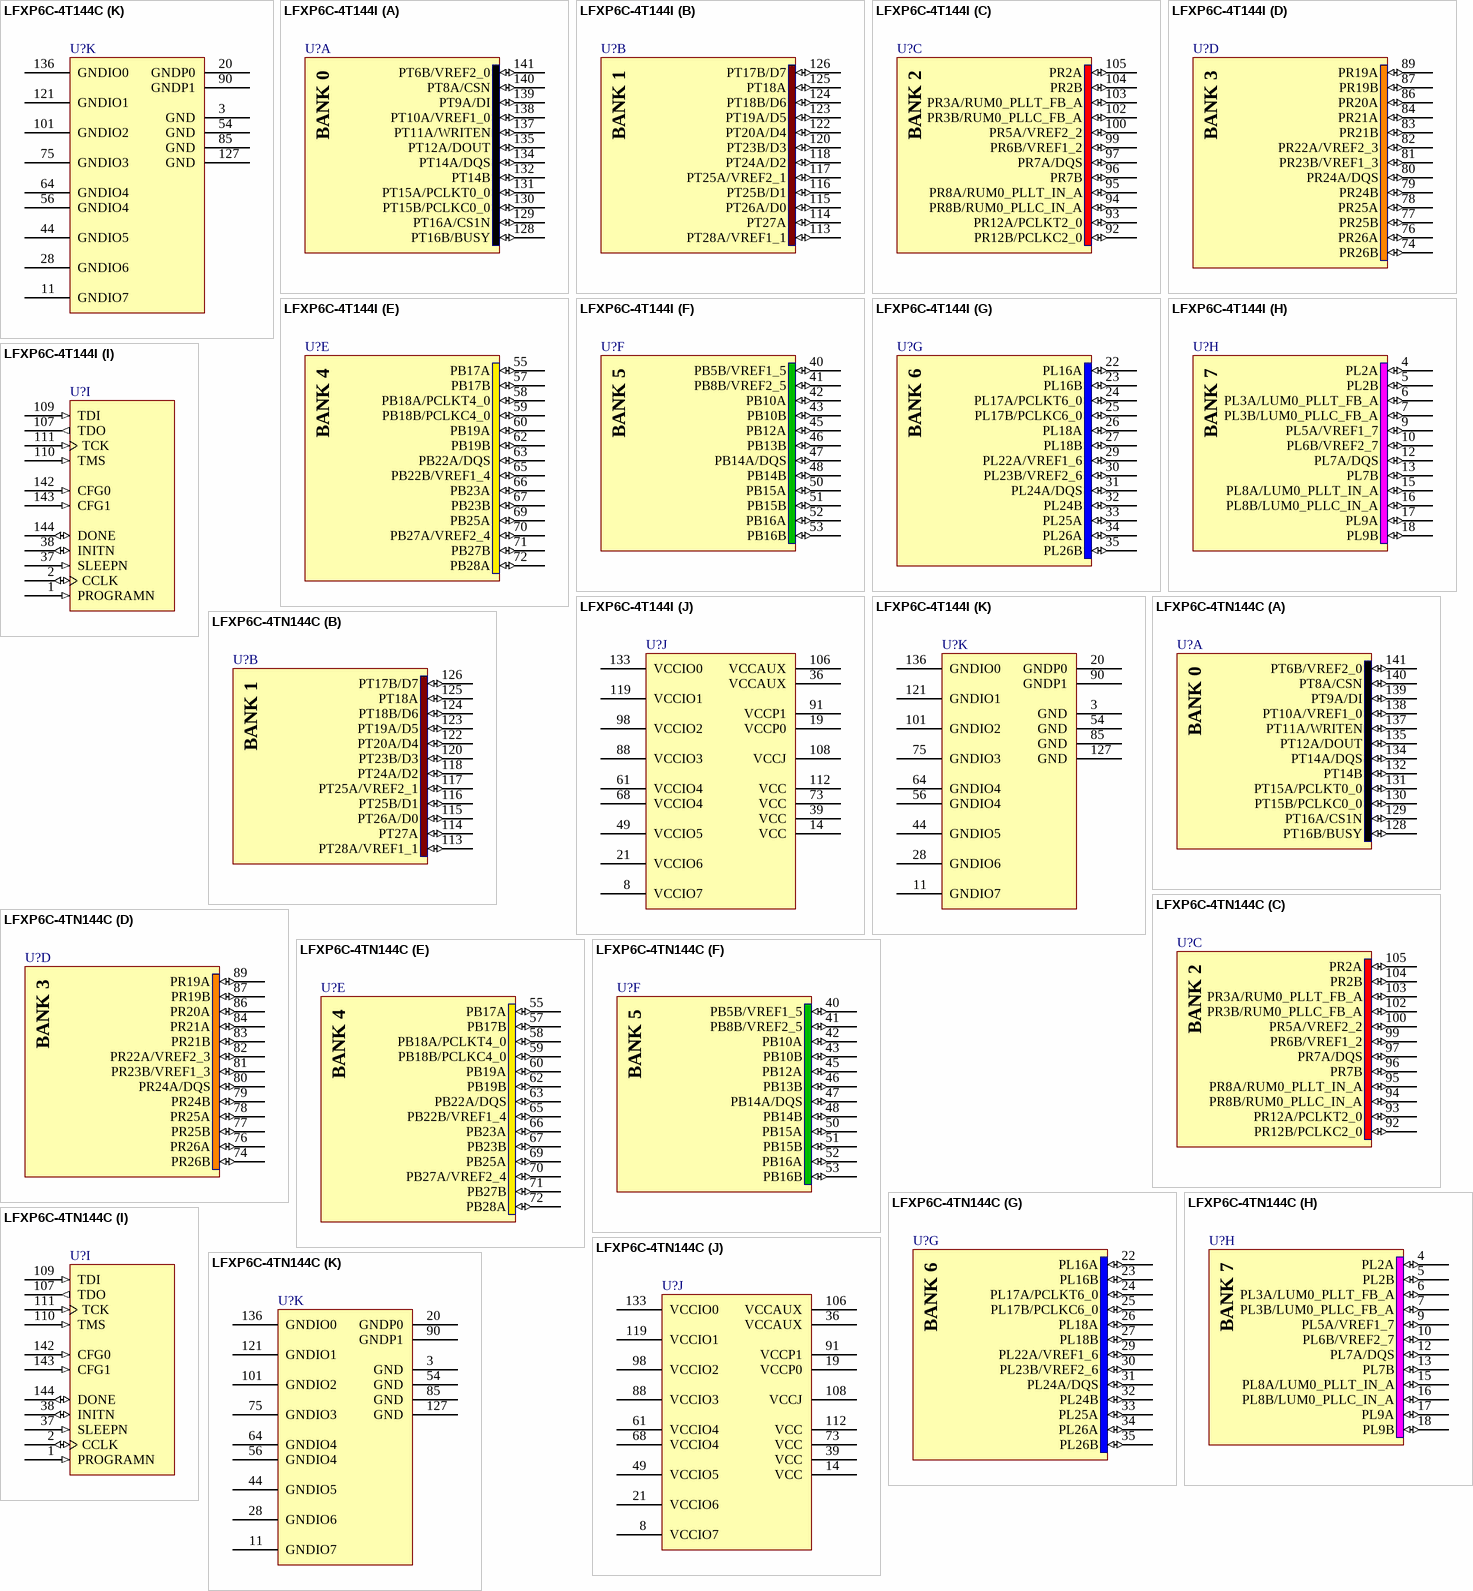
[diagram p48: symbols LFXP6C-4T144C to LFXP6C-4TN144C]